# Altium schematic symbol library ZX_MyLib.SchLib: 567 symbols (part 1 of 5)
Pins are listed as number, name and electrical type; pins without a type are passive.

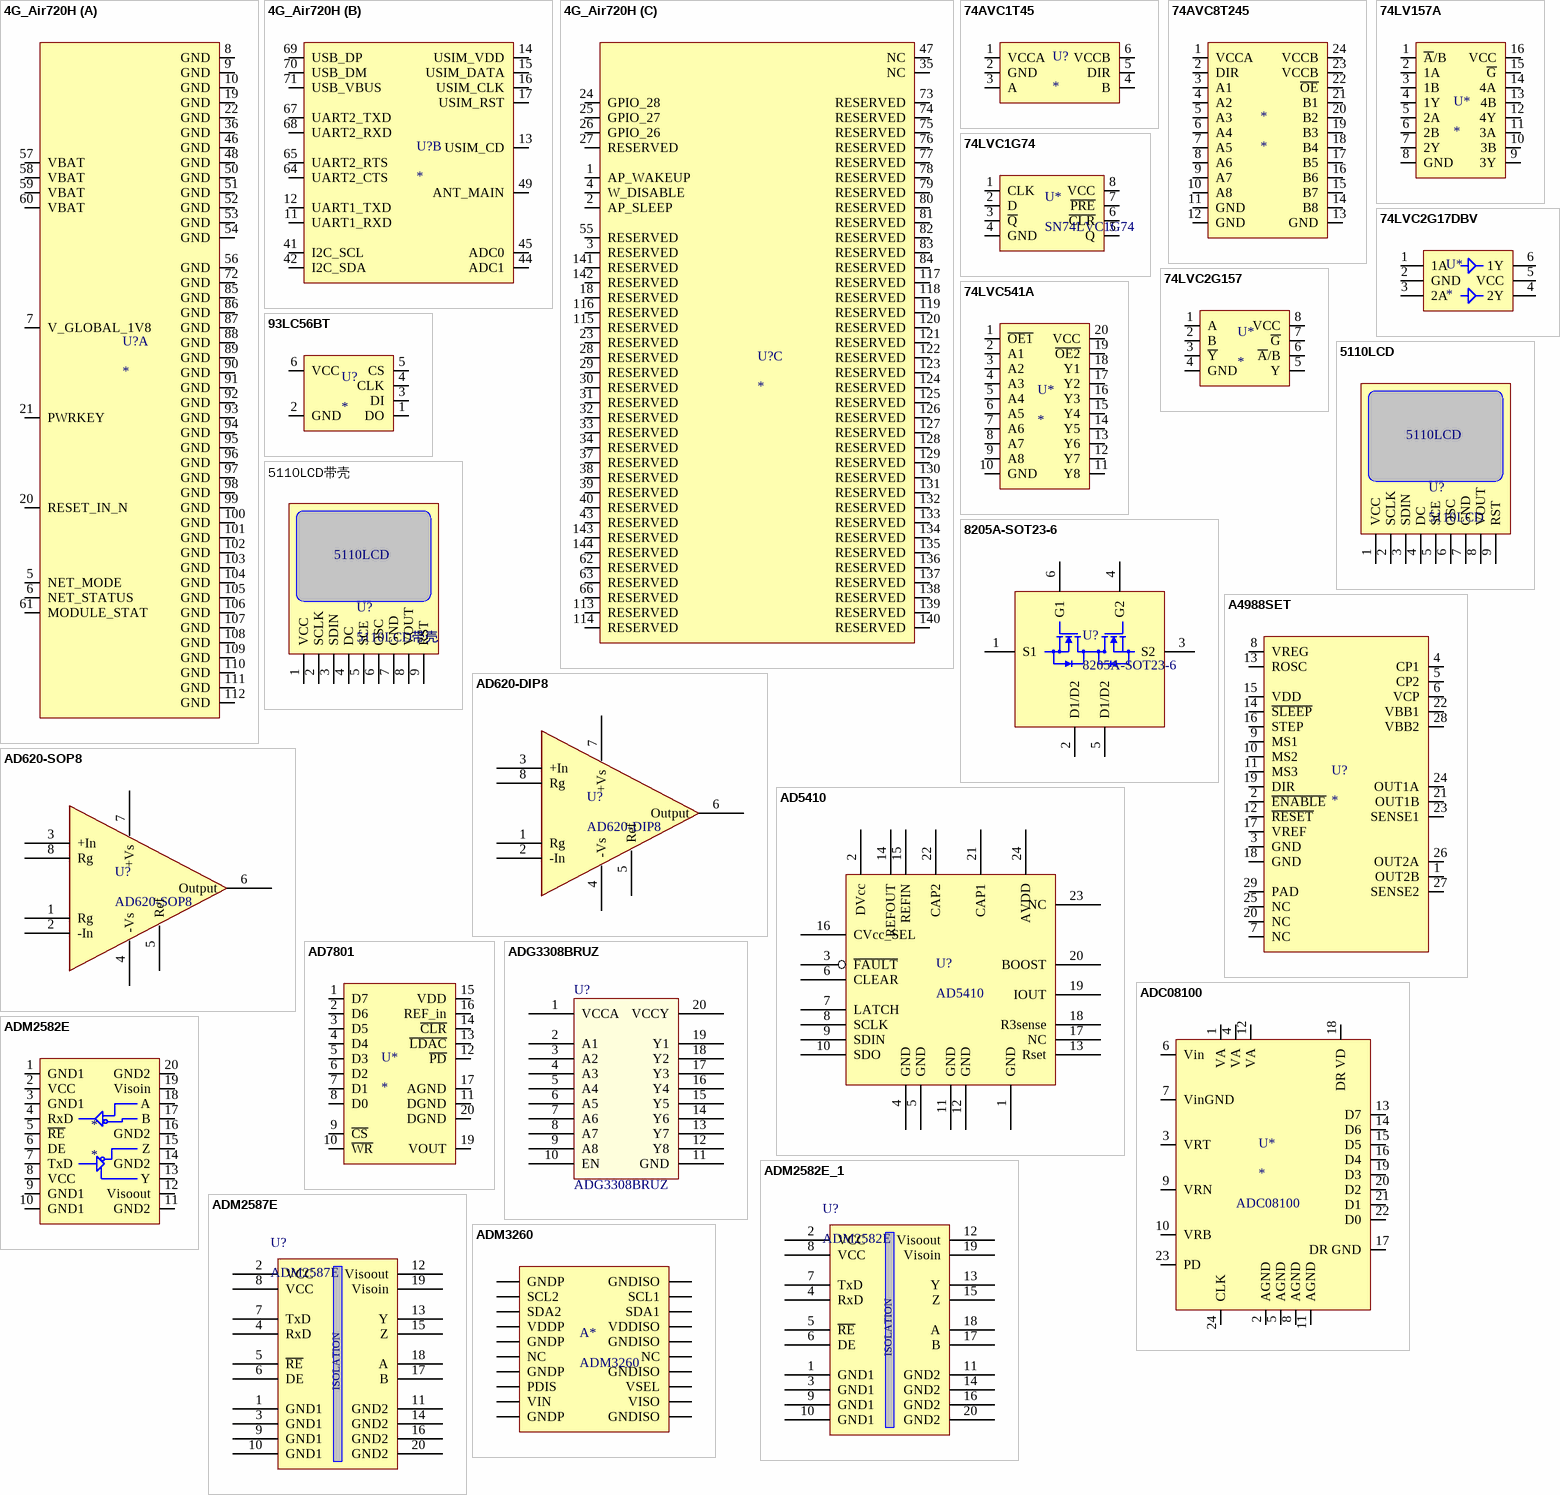
[diagram p0: symbols 4G_Air720H to ADM3260]

## 4G_Air720H
designator U?
footprint 4G_Air720H
part A pins: 5 NET_MODE, 6 NET_STATUS, 7 V_GLOBAL_1V8, 8 GND, 9 GND, 10 GND, 19 GND, 20 RESET_IN_N, 21 PWRKEY, 22 GND, 36 GND, 46 GND, 48 GND, 50 GND, 51 GND, 52 GND, 53 GND, 54 GND, 56 GND, 57 VBAT, 58 VBAT, 59 VBAT, 60 VBAT, 61 MODULE_STAT, 72 GND, 85 GND, 86 GND, 87 GND, 88 GND, 89 GND, 90 GND, 91 GND, 92 GND, 93 GND, 94 GND, 95 GND, 96 GND, 97 GND, 98 GND, 99 GND, 100 GND, 101 GND, 102 GND, 103 GND, 104 GND, 105 GND, 106 GND, 107 GND, 108 GND, 109 GND, 110 GND, 111 GND, 112 GND
part B pins: 11 UART1_RXD, 12 UART1_TXD, 13 USIM_CD, 14 USIM_VDD, 15 USIM_DATA, 16 USIM_CLK, 17 USIM_RST, 41 I2C_SCL, 42 I2C_SDA, 44 ADC1, 45 ADC0, 49 ANT_MAIN, 64 UART2_CTS, 65 UART2_RTS, 67 UART2_TXD, 68 UART2_RXD, 69 USB_DP, 70 USB_DM, 71 USB_VBUS
part C pins: 1 AP_WAKEUP, 2 AP_SLEEP, 3 RESERVED, 4 W_DISABLE, 18 RESERVED, 23 RESERVED, 24 GPIO_28, 25 GPIO_27, 26 GPIO_26, 27 RESERVED, 28 RESERVED, 29 RESERVED, 30 RESERVED, 31 RESERVED, 32 RESERVED, 33 RESERVED, 34 RESERVED, 35 NC, 37 RESERVED, 38 RESERVED, 39 RESERVED, 40 RESERVED, 43 RESERVED, 47 NC, 55 RESERVED, 62 RESERVED, 63 RESERVED, 66 RESERVED, 73 RESERVED, 74 RESERVED, 75 RESERVED, 76 RESERVED, 77 RESERVED, 78 RESERVED, 79 RESERVED, 80 RESERVED, 81 RESERVED, 82 RESERVED, 83 RESERVED, 84 RESERVED, 113 RESERVED, 114 RESERVED, 115 RESERVED, 116 RESERVED, 117 RESERVED, 118 RESERVED, 119 RESERVED, 120 RESERVED, 121 RESERVED, 122 RESERVED, 123 RESERVED, 124 RESERVED, 125 RESERVED, 126 RESERVED, 127 RESERVED, 128 RESERVED, 129 RESERVED, 130 RESERVED, 131 RESERVED, 132 RESERVED, 133 RESERVED, 134 RESERVED, 135 RESERVED, 136 RESERVED, 137 RESERVED, 138 RESERVED, 139 RESERVED, 140 RESERVED, 141 RESERVED, 142 RESERVED, 143 RESERVED, 144 RESERVED

## 74AVC1T45
designator U?
footprint SOT23-6 (SOT-457/SC-74; 6 Leads; Body 3 x 3 mm, inc. leads (LxW max))
footprint DCK (Footprint not found)
pins: 1 VCCA, 2 GND, 3 A, 4 B, 5 DIR, 6 VCCB

## 74AVC8T245
designator *
footprint TSSOP-24
pins: 1 VCCA, 2 DIR, 3 A1, 4 A2, 5 A3, 6 A4, 7 A5, 8 A6, 9 A7, 10 A8, 11 GND, 12 GND, 13 GND, 14 B8, 15 B7, 16 B6, 17 B5, 18 B4, 19 B3, 20 B2, 21 B1, 22 ~{OE}, 23 VCCB, 24 VCCB

## 74LV157A
designator U*
SN74LV157ADR
footprint SOP-16
pins: 1 ~{A}/B, 2 1A, 3 1B, 4 1Y, 5 2A, 6 2B, 7 2Y, 8 GND, 9 3Y, 10 3B, 11 3A, 12 4Y, 13 4B, 14 4A, 15 ~{G}, 16 VCC

## 74LVC1G74
designator U*, comment SN74LVC1G74
footprint VSSOP-8
pins: 1 CLK, 2 D, 3 ~{Q}, 4 GND, 5 Q, 6 ~{CLR}, 7 ~{PRE}, 8 VCC

## 74LVC2G17DBV
designator U*
footprint SOT-6L
pins: 1 1A, 2 GND, 3 2A, 4 2Y, 5 VCC, 6 1Y

## 74LVC2G157
designator U*
footprint SSOP8
pins: 1 A, 2 B, 3 ~{Y}, 4 GND, 5 Y, 6 ~{A}/B, 7 ~{G}, 8 VCC

## 74LVC541A
designator U*
footprint TSSOP-20
footprint SOIC-W20
pins: 1 ~{OE1}, 2 A1, 3 A2, 4 A3, 5 A4, 6 A5, 7 A6, 8 A7, 9 A8, 10 GND, 11 Y8, 12 Y7, 13 Y6, 14 Y5, 15 Y4, 16 Y3, 17 Y2, 18 Y1, 19 ~{OE2}, 20 VCC

## 93LC56BT
designator U?
footprint SOT23-6 (SOT-457/SC-74; 6 Leads; Body 3 x 3 mm, inc. leads (LxW max))
pins: 1 DO, 2 GND, 3 DI, 4 CLK, 5 CS, 6 VCC

## 5110LCD
designator U?
footprint 5110LCD
pins: 1 VCC, 2 SCLK, 3 SDIN, 4 DC, 5 SCE, 6 OSC, 7 GND, 8 VOUT, 9 RST

## 5110LCD带壳
designator U?
footprint 5110LCD带壳
pins: 1 VCC, 2 SCLK, 3 SDIN, 4 DC, 5 SCE, 6 OSC, 7 GND, 8 VOUT, 9 RST
text: 5110LCD

## 8205A-SOT23-6
designator U?
8205A Dual N-Channel Enhancement-Mode MOSFET (20V, 4A)
footprint SOT23-6 (SOT-457/SC-74; 6 Leads; Body 3 x 3 mm, inc. leads (LxW max))
pins: 1 S1, 2 D1/D2, 3 S2, 4 G2, 5 D1/D2, 6 G1

## A4988SET
designator U?
footprint QFN28 (QFN28, 0.5Pitch, 5.0x5.0mm)
pins: 1 OUT2B, 2 ~{ENABLE}, 3 GND, 4 CP1, 5 CP2, 6 VCP, 7 NC, 8 VREG, 9 MS1, 10 MS2, 11 MS3, 12 ~{RESET}, 13 ROSC, 14 ~{SLEEP}, 15 VDD, 16 STEP, 17 VREF, 18 GND, 19 DIR, 20 NC, 21 OUT1B, 22 VBB1, 23 SENSE1, 24 OUT1A, 25 NC, 26 OUT2A, 27 SENSE2, 28 VBB2, 29 PAD

## AD620-DIP8
designator U?
footprint AD620-DIP8
pins: 1 Rg, 2 -In, 3 +In, 4 -Vs, 5 Ref, 6 Output, 7 +Vs, 8 Rg

## AD620-SOP8
designator U?
footprint AD620-SOP8
pins: 1 Rg, 2 -In, 3 +In, 4 -Vs, 5 Ref, 6 Output, 7 +Vs, 8 Rg

## AD5410
designator U?
footprint AD5410
pins: 1 GND, 2 DVcc, 3 ~{FAULT}, 4 GND, 5 GND, 6 CLEAR, 7 LATCH, 8 SCLK, 9 SDIN, 10 SDO, 11 GND, 12 GND, 13 Rset, 14 REFOUT, 15 REFIN, 16 CVcc_SEL, 17 NC, 18 R3sense, 19 IOUT, 20 BOOST, 21 CAP1, 22 CAP2, 23 NC, 24 AVDD

## AD7801
designator U*
pins: 1 D7, 2 D6, 3 D5, 4 D4, 5 D3, 6 D2, 7 D1, 8 D0, 9 ~{CS}, 10 ~{WR}, 11 DGND, 12 ~{PD}, 13 ~{LDAC}, 14 ~{CLR}, 15 VDD, 16 REF_in, 17 AGND, 19 VOUT, 20 DGND

## ADC08100
designator U*
pins: 1 VA, 2 AGND, 3 VRT, 4 VA, 5 AGND, 6 Vin, 7 VinGND, 8 AGND, 9 VRN, 10 VRB, 11 AGND, 12 VA, 13 D7, 14 D6, 15 D5, 16 D4, 17 DR GND, 18 DR VD, 19 D3, 20 D2, 21 D1, 22 D0, 23 PD, 24 CLK

## ADG3308BRUZ
designator U?
footprint TSSOP-20 (TSSOP, Plastic; 20 Leads; Body Width 5.3 mm; Pitch 0.65 mm)
pins: 1 VCCA, 2 A1, 3 A2, 4 A3, 5 A4, 6 A5, 7 A6, 8 A7, 9 A8, 10 EN, 11 GND, 12 Y8, 13 Y7, 14 Y6, 15 Y5, 16 Y4, 17 Y3, 18 Y2, 19 Y1, 20 VCCY

## ADM2582E
designator *
footprint SOIC-W20
pins: 1 GND1, 2 VCC, 3 GND1, 4 RxD, 5 ~{RE}, 6 DE, 7 TxD, 8 VCC, 9 GND1, 10 GND1, 11 GND2, 12 Visoout, 13 Y, 14 GND2, 15 Z, 16 GND2, 17 B, 18 A, 19 Visoin, 20 GND2

## ADM2582E_1
designator U?, comment ADM2582E
2.5 kV Signal and Power Isolated, ±15 kV ESD Protected, Full/Half Duplex RS-485 Transceiver (16Mbps)
footprint SOP-20 (20-Pin Small Outline Integrated Circuit 1.27 mm Pitch, IPC Low Density)
pins: 1 GND1 "Ground, Logic Side.", 2 VCC  "Logic Side Power Supply. It is recommended that a 0.1 μF and a 0.01 μF decoupling capacitor be fitted between  Pin 2 and Pin 1.", 3 GND1  "Ground, Logic Side.", 4 RxD "Receiver Output Data. This output is high when (A ? B) ≥ ?30 mV and low when (A ? B) ≤ –200 mV.  The output is tristated when the receiver is disabled, that is, when RE is driven high.", 5 ~{RE} "Receiver Enable Input. This is an active-low input. Driving this input low enables the receiver; driving it  high disables the receiver.", 6 DE "Driver Enable Input. Driving this input high enables the driver; driving it low disables the driver.", 7 TxD "Driver Input. Data to be transmitted by the driver is applied to this input.", 8 VCC "Logic Side Power Supply. It is recommended that a 0.1 μF and a 10 μF decoupling capacitor be fitted between  Pin 8 and Pin 9.", 9 GND1 "Ground, Logic Side.", 10 GND1 "Ground, Logic Side.", 11 GND2 "Ground, Bus Side.", 12 Visoout "Isolated Power Supply Output. This pin must be connected externally to VISOIN. It is recommended that a reservoir capacitor of 10 μF and a decoupling capacitor of 0.1 μF be fitted between Pin 12 and Pin 11.", 13 Y "Driver Noninverting Output", 14 GND2 "Ground, Bus Side.", 15 Z "Driver Inverting Output", 16 GND2 "Ground, Bus Side.", 17 B "Receiver Inverting Input.", 18 A "Receiver Noninverting Input.", 19 Visoin "Isolated Power Supply Input. This pin must be connected externally to VISOOUT. It is recommended that a  0.1 μF and a 0.01 μF decoupling capacitor be fitted between Pin 19 and Pin 20.", 20 GND2 "Ground, Bus Side."
text: ISOLATION

## ADM2587E
designator U?
2.5 kV Signal and Power Isolated, ±15 kV ESD Protected, Full/Half Duplex RS-485 Transceiver (500kbps)
footprint SOP-20 (20-Pin Small Outline Integrated Circuit 1.27 mm Pitch, IPC Low Density)
pins: 1 GND1 "Ground, Logic Side.", 2 VCC  "Logic Side Power Supply. It is recommended that a 0.1 μF and a 0.01 μF decoupling capacitor be fitted between  Pin 2 and Pin 1.", 3 GND1  "Ground, Logic Side.", 4 RxD "Receiver Output Data. This output is high when (A ? B) ≥ ?30 mV and low when (A ? B) ≤ –200 mV.  The output is tristated when the receiver is disabled, that is, when RE is driven high.", 5 ~{RE} "Receiver Enable Input. This is an active-low input. Driving this input low enables the receiver; driving it  high disables the receiver.", 6 DE "Driver Enable Input. Driving this input high enables the driver; driving it low disables the driver.", 7 TxD "Driver Input. Data to be transmitted by the driver is applied to this input.", 8 VCC "Logic Side Power Supply. It is recommended that a 0.1 μF and a 10 μF decoupling capacitor be fitted between  Pin 8 and Pin 9.", 9 GND1 "Ground, Logic Side.", 10 GND1 "Ground, Logic Side.", 11 GND2 "Ground, Bus Side.", 12 Visoout "Isolated Power Supply Output. This pin must be connected externally to VISOIN. It is recommended that a reservoir capacitor of 10 μF and a decoupling capacitor of 0.1 μF be fitted between Pin 12 and Pin 11.", 13 Y "Driver Noninverting Output", 14 GND2 "Ground, Bus Side.", 15 Z "Driver Inverting Output", 16 GND2 "Ground, Bus Side.", 17 B "Receiver Inverting Input.", 18 A "Receiver Noninverting Input.", 19 Visoin "Isolated Power Supply Input. This pin must be connected externally to VISOOUT. It is recommended that a  0.1 μF and a 0.01 μF decoupling capacitor be fitted between Pin 19 and Pin 20.", 20 GND2 "Ground, Bus Side."
text: ISOLATION

## ADM3260
designator A*
footprint SSOP20
pins: 1 GNDP, 2 SCL2, 3 SDA2, 4 VDDP, 5 GNDP, 6 NC, 7 GNDP, 8 PDIS, 9 VIN, 10 GNDP, 11 GNDISO, 12 VISO, 13 VSEL, 14 GNDISO, 15 NC, 16 GNDISO, 17 VDDISO, 18 SDA1, 19 SCL1, 20 GNDISO

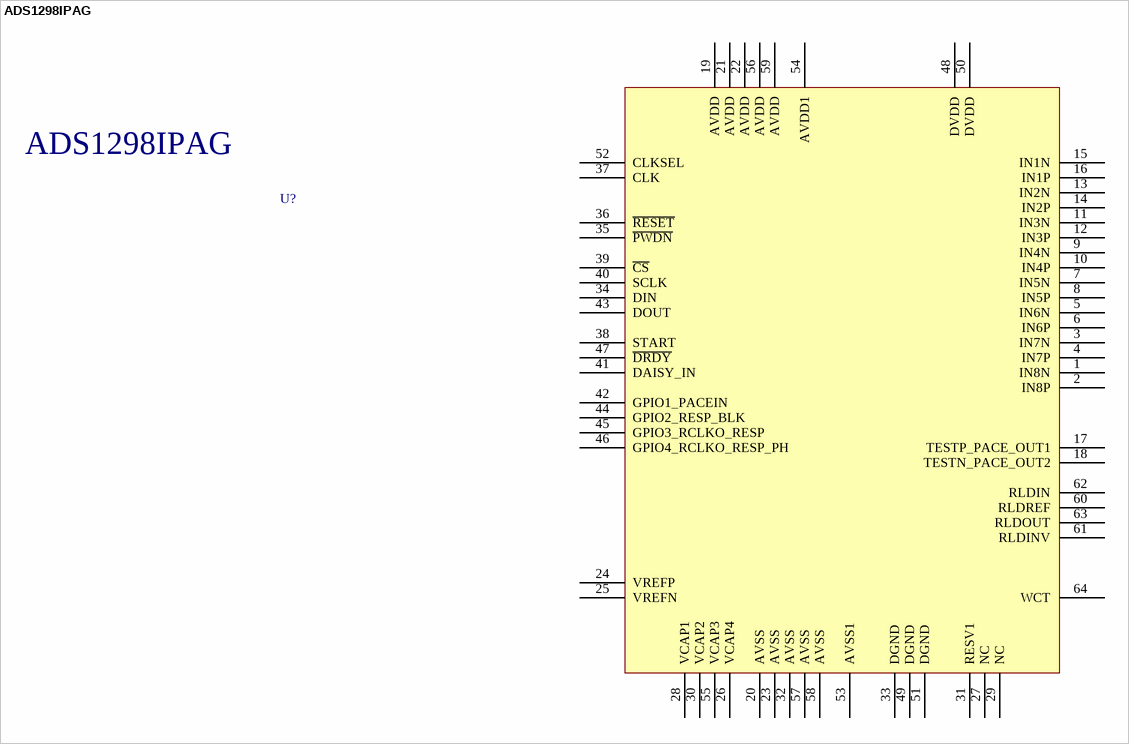
[diagram p1: symbol ADS1298IPAG]

## ADS1298IPAG
designator U?
footprint ADS1298IPAG
pins: 1 IN8N, 2 IN8P, 3 IN7N, 4 IN7P, 5 IN6N, 6 IN6P, 7 IN5N, 8 IN5P, 9 IN4N, 10 IN4P, 11 IN3N, 12 IN3P, 13 IN2N, 14 IN2P, 15 IN1N, 16 IN1P, 17 TESTP_PACE_OUT1, 18 TESTN_PACE_OUT2, 19 AVDD, 20 AVSS, 21 AVDD, 22 AVDD, 23 AVSS, 24 VREFP, 25 VREFN, 26 VCAP4, 27 NC, 28 VCAP1, 29 NC, 30 VCAP2, 31 RESV1, 32 AVSS, 33 DGND, 34 DIN, 35 ~{PWDN}, 36 ~{RESET}, 37 CLK, 38 START, 39 ~{CS}, 40 SCLK, 41 DAISY_IN, 42 GPIO1_PACEIN, 43 DOUT, 44 GPIO2_RESP_BLK, 45 GPIO3_RCLKO_RESP, 46 GPIO4_RCLKO_RESP_PH, 47 ~{DRDY}, 48 DVDD, 49 DGND, 50 DVDD, 51 DGND, 52 CLKSEL, 53 AVSS1, 54 AVDD1, 55 VCAP3, 56 AVDD, 57 AVSS, 58 AVSS, 59 AVDD, 60 RLDREF, 61 RLDINV, 62 RLDIN, 63 RLDOUT, 64 WCT

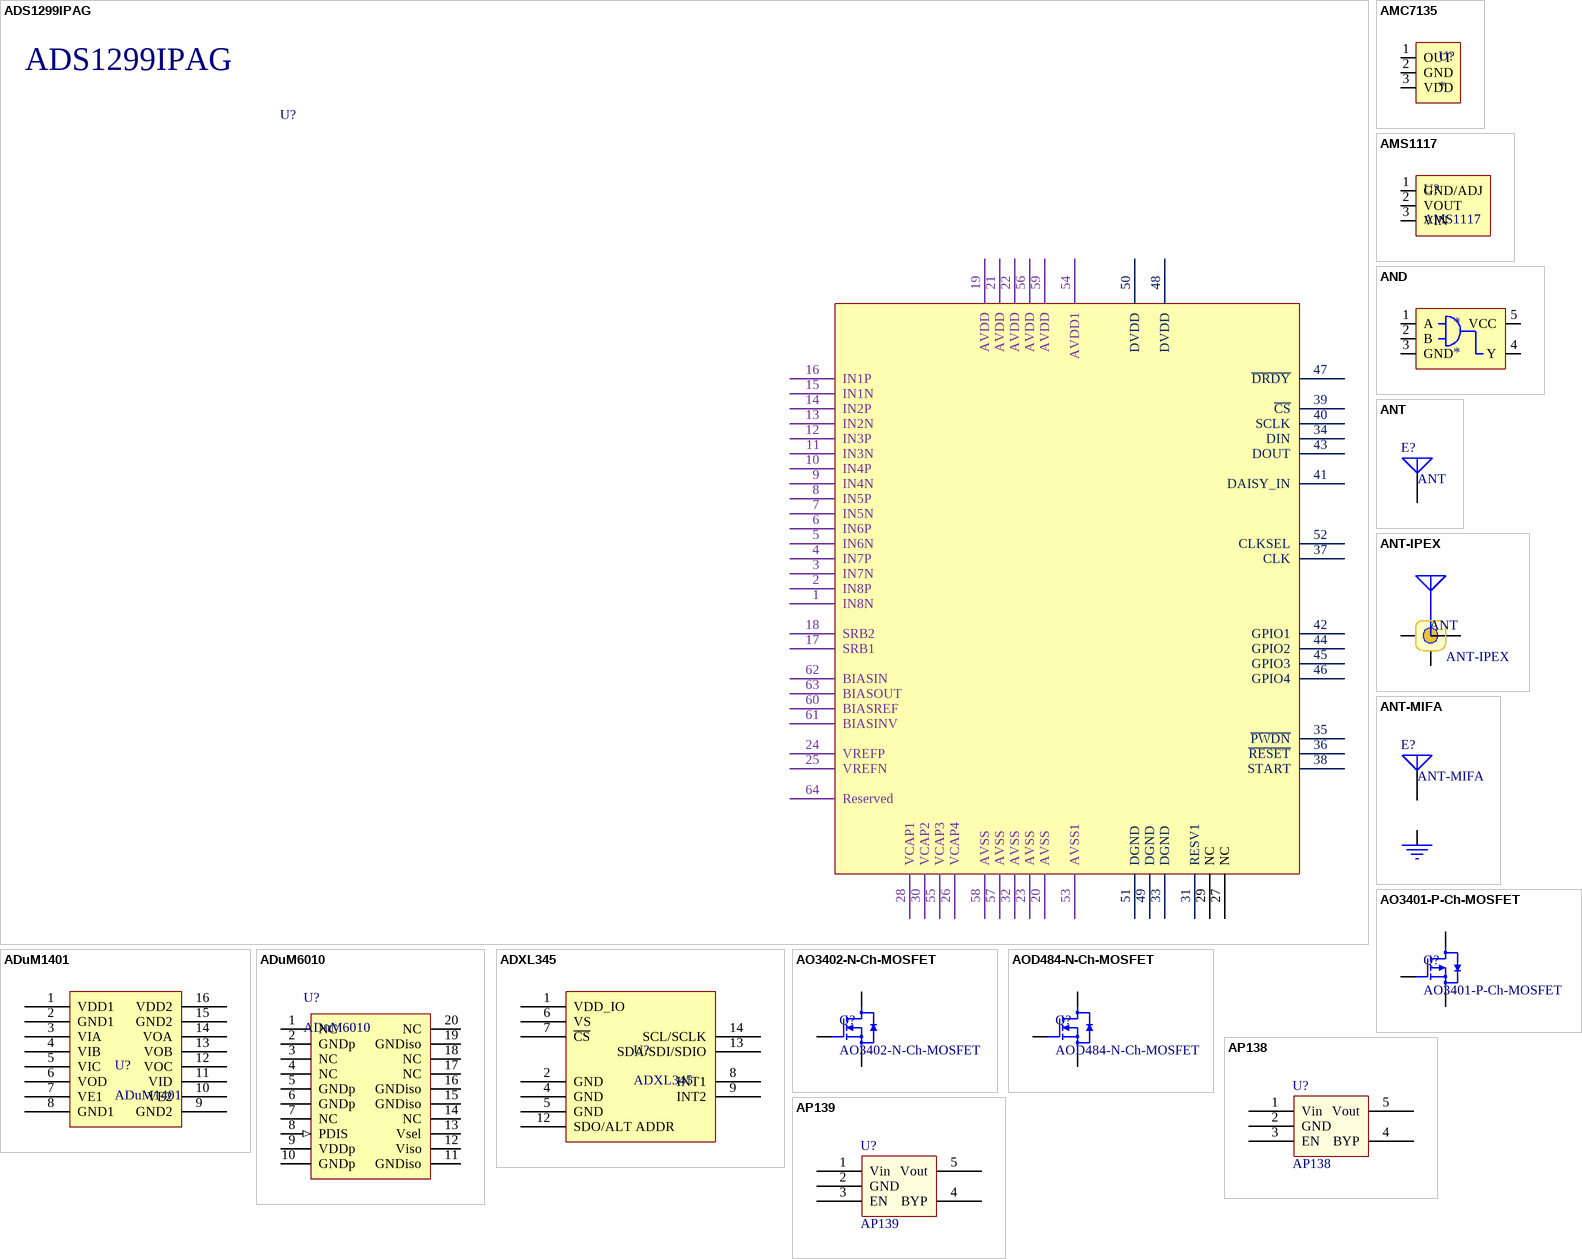
[diagram p2: symbols ADS1299IPAG to AP139]

## ADS1299IPAG
designator U?
Low-Noise, 8-Channel, 24-Bit Analog Front-End for Biopotential Measurements
footprint ADS1299IPAG (ADS1299IPAG,Low-Noise, 8-Channel, 24-Bit Analog Front-End for Biopotential Measurements)
pins: 1 IN8N "Differential analog negative input 8", 2 IN8P "Differential analog positive input 8", 3 IN7N "Differential analog negative input 7", 4 IN7P "Differential analog positive input 7", 5 IN6N "Differential analog negative input 6", 6 IN6P "Differential analog positive input 6", 7 IN5N "Differential analog negative input 5", 8 IN5P "Differential analog positive input 5", 9 IN4N "Differential analog negative input 4", 10 IN4P "Differential analog positive input 4", 11 IN3N "Differential analog negative input 3", 12 IN3P "Differential analog positive input 3", 13 IN2N "Differential analog negative input 2", 14 IN2P "Differential analog positive input 2", 15 IN1N "Differential analog negative input 1", 16 IN1P "Differential analog positive input 1", 17 SRB1 "Patient stimulus, reference, and bias signal 1", 18 SRB2 "Patient stimulus, reference, and bias signal 2", 19 AVDD "Analog supply", 20 AVSS "Analog ground", 21 AVDD "Analog supply", 22 AVDD "Analog supply", 23 AVSS "Analog ground", 24 VREFP "Positive reference voltage", 25 VREFN "Negative reference voltage", 26 VCAP4 "Analog bypass capacitor", 27 NC "No connection", 28 VCAP1 "Analog bypass capacitor", 29 NC "No connection", 30 VCAP2 "Analog bypass capacitor", 31 RESV1 "Reserved for future use. Must tie to logic low (DGND)", 32 AVSS "Analog ground", 33 DGND "Digital ground", 34 DIN "SPI data in", 35 ~{PWDN} "Power-down; active low", 36 ~{RESET} "System reset; active low", 37 CLK "Master clock input", 38 START "Start conversion", 39 ~{CS} "SPI chip select; active low", 40 SCLK "SPI clock", 41 DAISY_IN "Daisy-chain input", 42 GPIO1 "General-purpose input/output pin", 43 DOUT "SPI data out", 44 GPIO2 "General-purpose input/output pin", 45 GPIO3 "GPIO3 in normal mode", 46 GPIO4 "GPIO4 in normal mode", 47 ~{DRDY} "Data ready; active low", 48 DVDD "Digital power supply", 49 DGND "Digital ground", 50 DVDD "Digital power supply", 51 DGND "Digital ground", 52 CLKSEL "Master clock select", 53 AVSS1 "Analog ground", 54 AVDD1 "Analog supply", 55 VCAP3 "Analog bypass capacitor", 56 AVDD "Analog supply", 57 AVSS "Analog ground", 58 AVSS "Charge pump analog ground", 59 AVDD "Charge pump analog supply", 60 BIASREF "Bias drive noninverting input", 61 BIASINV "Bias drive inverting input", 62 BIASIN "Bias drive input to MUX", 63 BIASOUT "Bias drive output", 64 Reserved "Leave as open circuit"

## ADuM1401
designator U?
footprint ADUM1401
pins: 1 VDD1, 2 GND1, 3 VIA, 4 VIB, 5 VIC, 6 VOD, 7 VE1, 8 GND1, 9 GND2, 10 VE2, 11 VID, 12 VOC, 13 VOB, 14 VOA, 15 GND2, 16 VDD2

## ADuM6010
designator U?
Integrated DC-to-DC Converter
footprint SSOP-20 (SSOP, Plastic; 20 Leads; Body Width 5.3 mm; Pitch 0.65 mm)
pins: 1 NC "空引脚", 2 GNDp (power) "隔离器原边参考", 3 NC "空引脚", 4 NC "空引脚", 5 GNDp (power) "隔离器原边参考", 6 GNDp (power) "隔离器原边参考", 7 NC (power) "空引脚", 8 PDIS (in) "禁用电源转换", 9 VDDp (power) "原边电源电压，3.0 V至5.5 V", 10 GNDp (power) "隔离器原边参考地", 11 GNDiso (power) "隔离器第2侧的接地基准点", 12 Viso (power) "根据与VSEL相连的分压器，外部负载的副电源为3.15 V至5.5 V。", 13 Vsel (power) "输出电压选择输入", 14 NC "空引脚", 15 GNDiso (power) "隔离器第2侧的接地基准点", 16 GNDiso (power) "隔离器第2侧的接地基准点", 17 NC "空引脚", 18 NC "空引脚", 19 GNDiso (power) "隔离器第2侧的接地基准点", 20 NC "空引脚"

## ADXL345
designator U?
footprint ADXL345 (ADXL345 SMD Digital Accelerometer)
pins: 1 VDD_IO, 2 GND, 4 GND, 5 GND, 6 VS, 7 ~{CS}, 8 INT1, 9 INT2, 12 SDO/ALT ADDR, 13 SDA/SDI/SDIO, 14 SCL/SCLK

## AMC7135
designator U?
恒流LED驱动芯片，AMC7135、L7135、MEL7135
footprint SOT-89 (SOT-89-3L SMT PACKAGE)
pins: 1 OUT, 2 GND, 3 VDD

## AMS1117
designator U?
AMS1117 1A LOW DROPOUT VOLTAGE REGULATOR
footprint SOT-223 (3 LEAD SOT-223 PLASTIC PACKAGE)
pins: 1 GND/ADJ "Ground or Adjust", 2 VOUT "Voltage Output", 3 VIN "Voltage Input"

## AND
designator *
footprint SOT-23-5
pins: 1 A, 2 B, 3 GND, 4 Y, 5 VCC

## ANT
designator E?
Generic Antenna
footprint ANT-IFA_2.4GHz (Inverted F 2.4 GHz PCB antenna)
footprint ANT-GPS1003 (GPS1003 1575MHz Multilayer Chip Antenna)
footprint ANT-MD1506_12N (MD1506‐12N  (820MHz~1950MHz)Multilayer  Chip  Antenna)
footprint ANT-1603 (AN1603 433MHz Multilayer Chip Antenna)
footprint ANT-IIFA_868MHz_915MHz (Small Size IIFA 868MHz/915MHz PCB antenna)
footprint ANT-ILA_2.4GHz (Inverted L 2.4 GHz PCB antenna)
footprint ANT-ILA_B_2.4GHz (Inverted L 2.4 GHz PCB antenna)
footprint ANT-PIFA_2.4GHz_1MM (Small Size PIFA 2.4 GHz PCB antenna)
footprint ANT-9520 (AN9520  Multilayer Chip Antenna for  2.4GHz Wireless Communication)
footprint ANT-RT5370_AP_D9595 (Wi-Fi 2.4GHz PCB Antenna)
footprint ANT-IIFA_2.4GHz_ESP (Small Size IIFA 2.4 GHz PCB antenna)
pins: 1 A

## ANT-IPEX
designator ANT
IPEX天线座
footprint IPEX-3x3mm (U.FL-R-SMT)
footprint IPEX-3x3mm_2 (U.FL-R-SMT)
pins: 1, 2 G, 3

## ANT-MIFA
designator E?
Meandered Inverted F Antenna
footprint ANT-IIFA_2.4GHz (Small Size IIFA 2.4 GHz PCB antenna)
footprint ANT-IIFA_868MHz_915MHz (Small Size IIFA 868MHz/915MHz PCB antenna)
footprint ANT-PIFA_2.4GHz_1MM (Small Size PIFA 2.4 GHz PCB antenna)
footprint ANT-RT5370_AP_D9595 (Wi-Fi 2.4GHz PCB Antenna)
footprint ANT-IIFA_2.4GHz_ESP (Small Size IIFA 2.4 GHz PCB antenna)
pins: 1 A, 2 G

## AO3401-P-Ch-MOSFET
designator Q?
AO3401-P-Ch,-4.2A, -30V.RDS(ON) = 0.12Ω @ VGS = -2.5 V
footprint AO3401-P-Ch-MOSFET
pins: 1 G, 2 S, 3 D

## AO3402-N-Ch-MOSFET
designator Q?
AO3402-N-Ch,4A,30V.RDS(ON) = 0.11Ω @ VGS = 2.5V
footprint AO3402-N-Ch-MOSFET
pins: 1 G, 2 S, 3 D

## AOD484-N-Ch-MOSFET
designator Q?
30V N-Channel MOSFET, 25A, Gate Threshold Voltage 2.5V
footprint TO-252-2 (TO-252-2,TD03B)
pins: 1 G, 2 D, 3 S

## AP138
designator U?
AP138 300mA Low-Noise CMOS LDO
footprint SOT23-5
pins: 1 Vin "Power Supply", 2 GND (power) "Ground", 3 EN "Enable Pin", 4 BYP "Bypass Signal Pin", 5 Vout (power) "Output"

## AP139
designator U?
AP139 300mA Low-Noise CMOS LDO
footprint SOT23-5
pins: 1 Vin "Power Supply", 2 GND (power) "Ground", 3 EN "Enable Pin", 4 BYP "Bypass Signal Pin", 5 Vout (power) "Output"

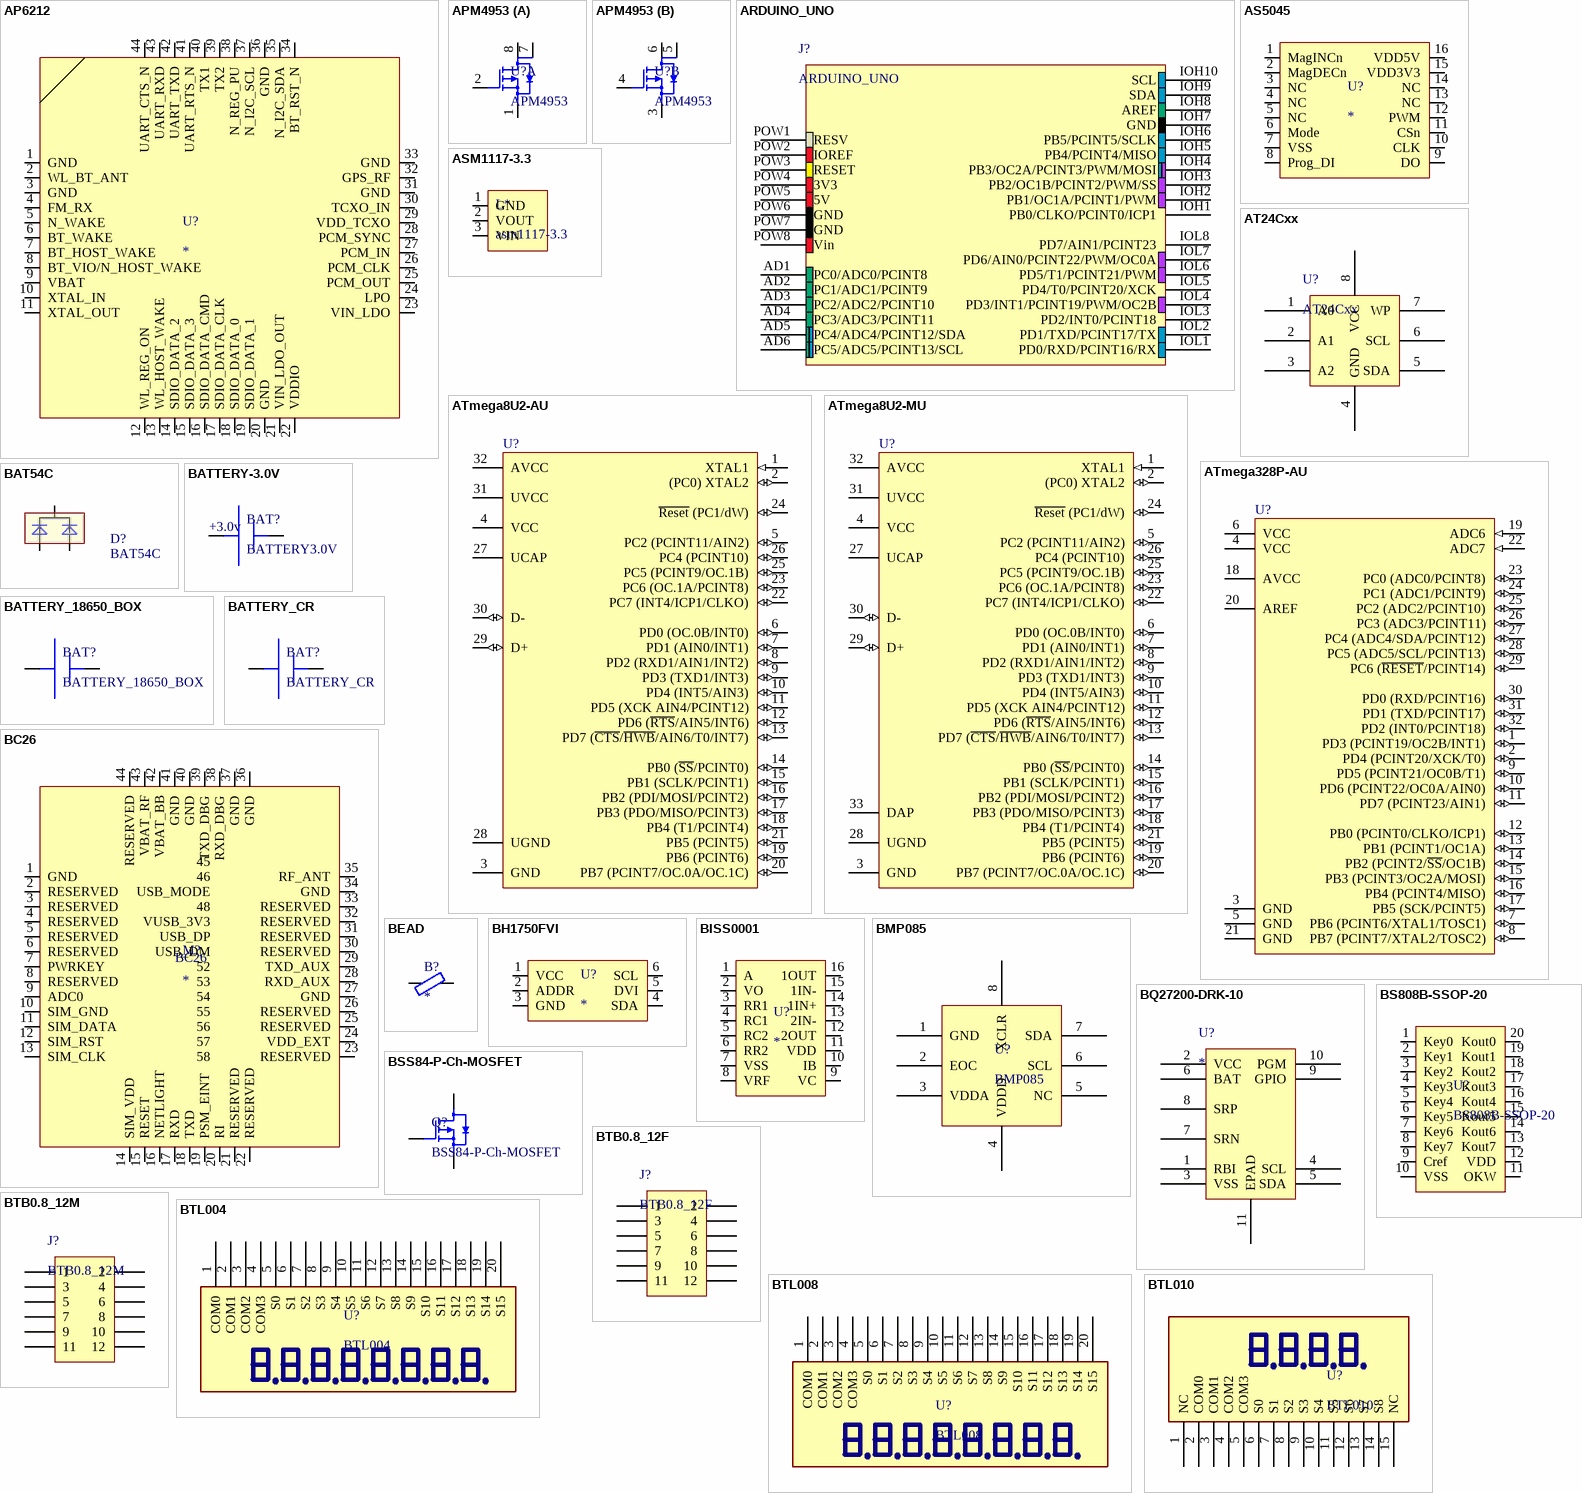
[diagram p3: symbols AP6212 to BTL010]

## AP6212
designator U?
footprint AP6212 (WIFI/BT MODULE)
pins: 1 GND, 2 WL_BT_ANT, 3 GND, 4 FM_RX, 5 N_WAKE, 6 BT_WAKE, 7 BT_HOST_WAKE, 8 BT_VIO/N_HOST_WAKE, 9 VBAT, 10 XTAL_IN, 11 XTAL_OUT, 12 WL_REG_ON, 13 WL_HOST_WAKE, 14 SDIO_DATA_2, 15 SDIO_DATA_3, 16 SDIO_DATA_CMD, 17 SDIO_DATA_CLK, 18 SDIO_DATA_0, 19 SDIO_DATA_1, 20 GND, 21 VIN_LDO_OUT, 22 VDDIO, 23 VIN_LDO, 24 LPO, 25 PCM_OUT, 26 PCM_CLK, 27 PCM_IN, 28 PCM_SYNC, 29 VDD_TCXO, 30 TCXO_IN, 31 GND, 32 GPS_RF, 33 GND, 34 BT_RST_N, 35 N_I2C_SDA, 36 GND, 37 N_I2C_SCL, 38 N_REG_PU, 39 TX2, 40 TX1, 41 UART_RTS_N, 42 UART_TXD, 43 UART_RXD, 44 UART_CTS_N

## APM4953
designator U?
-30V/-4.9A(Rds=80mΩ@-4.5V) Dual P-Channel Enhancement Mode MOSFET
footprint SOP-8 (8-Pin Small Outline Integrated Circuit 1.27 mm Pitch, IPC Low Density)
part A pins: 1 S1, 2 G1, 7 D1, 8 D1
part B pins: 3 S2, 4 G2, 5 D2, 6 D2

## ARDUINO_UNO
designator J?
Arduino UNO Connector
footprint ARDUINO_UNO
pins: AD1 PC0/ADC0/PCINT8, AD2 PC1/ADC1/PCINT9, AD3 PC2/ADC2/PCINT10, AD4 PC3/ADC3/PCINT11, AD5 PC4/ADC4/PCINT12/SDA, AD6 PC5/ADC5/PCINT13/SCL, IOH1 PB0/CLKO/PCINT0/ICP1, IOH2 PB1/OC1A/PCINT1/PWM, IOH3 PB2/OC1B/PCINT2/PWM/SS, IOH4 PB3/OC2A/PCINT3/PWM/MOSI, IOH5 PB4/PCINT4/MISO, IOH6 PB5/PCINT5/SCLK, IOH7 GND, IOH8 AREF, IOH9 SDA, IOH10 SCL, IOL1 PD0/RXD/PCINT16/RX, IOL2 PD1/TXD/PCINT17/TX, IOL3 PD2/INT0/PCINT18, IOL4 PD3/INT1/PCINT19/PWM/OC2B, IOL5 PD4/T0/PCINT20/XCK, IOL6 PD5/T1/PCINT21/PWM, IOL7 PD6/AIN0/PCINT22/PWM/OC0A, IOL8 PD7/AIN1/PCINT23, POW1 RESV, POW2 IOREF, POW3 RESET, POW4 3V3, POW5 5V, POW6 GND, POW7 GND, POW8 Vin

## AS5045
designator U?
磁旋转编码器
footprint SSOP-16 (SSOP, Plastic; 16 Leads; Body Width 5.3 mm; Pitch 0.65 mm)
pins: 1 MagINCn, 2 MagDECn, 3 NC, 4 NC, 5 NC, 6 Mode, 7 VSS, 8 Prog_DI, 9 DO, 10 CLK, 11 CSn, 12 PWM, 13 NC, 14 NC, 15 VDD3V3, 16 VDD5V

## ASM1117-3.3
designator L*, comment asm1117-3.3
footprint SOT-223
pins: 1 GND, 2 VOUT, 3 VIN

## AT24Cxx
designator U?
EEPROM,Serial electrically erasable and programmable read only memory.
footprint SOP-8 (8-Pin Small Outline Integrated Circuit 1.27 mm Pitch, IPC Low Density)
footprint DIP-8 (DIP8封装，100mil间距，300mil引脚宽度)
footprint WSOP-8 (8-Pin Small Outline Package 1.27 mm Pitch, IPC Medium Density)
pins: 1 A0 "Address Inputs", 2 A1 "Address Inputs", 3 A2 "Address Inputs", 4 GND "Ground", 5 SDA "Serial Data", 6 SCL "Serial Clock Input", 7 WP "Write Protect", 8 VCC "Power Supply"

## ATmega8U2-AU
designator U?
8-bit AVR Microcontroller, 2.7-5.5V, 8KB Flash, 512 Bytes EEPROM, 512 Bytes SRAM, 32-pin TQFP, Industrial Grade (-40 Centigrade to 85 Centigrade); Published: 1-Apr-2010; DatasheetVersion: revC, Dec-2009; PackageVersion: revB, Oct-2001; PackageReference: 32A; Publisher: Altium Limited; PackageDescription: 32-Lead, 7x7x1.0 mm Body, 0.8mm Lead Pitch, Thin Profile Plastic Quad Flat Package (TQFP); Supplier 1: Digi-Key; Supplier Part Number 1: ATMEGA8U2-AU-ND; Supplier 2: Farnell; Supplier Part Number 2: 1748535; Supplier 3: Mouser; Supplier Part Number 3: 556-ATMEGA8U2-AU; Code_JEDEC: MS-026-ABA; ComponentLink1Description: Manufacturer Link; ComponentLink1URL: http://www.atmel.com/products/avr/default.asp?; ComponentLink2Description: ATmega8U2/16U2/32U2 Datasheet; ComponentLink2URL: http://www.atmel.com/dyn/resources/prod_documents/doc7799.pdf; ComponentLink3Description: ATmega8U2/16U2/32U2 Summary; ComponentLink3URL: http://www.atmel.com/dyn/resources/prod_documents/7799S.pdf; ComponentLink4Description: Atmel.com Home; ComponentLink4URL: http://www.atmel.com
footprint LQFP32_L (Thin QFP, 32-Leads, Body 7x7mm, Pitch 0.8mm, IPC High Density)
footprint LQFP32_N (Thin QFP, 32-Leads, Body 7x7mm, Pitch 0.8mm, IPC Medium Density)
footprint LQFP32_M (Thin QFP, 32-Leads, Body 7x7mm, Pitch 0.8mm, IPC Low Density)
pins: 1 XTAL1 (in), 2 (PC0) XTAL2 (io), 3 GND (power), 4 VCC (power), 5 PC2 (PCINT11/AIN2) (io), 6 PD0 (OC.0B/INT0) (io), 7 PD1 (AIN0/INT1) (io), 8 PD2 (RXD1/AIN1/INT2) (io), 9 PD3 (TXD1/INT3) (io), 10 PD4 (INT5/AIN3) (io), 11 PD5 (XCK AIN4/PCINT12) (io), 12 PD6 (~{RTS}/AIN5/INT6) (io), 13 PD7 (~{CTS}/~{HWB}/AIN6/T0/INT7) (io), 14 PB0 (~{SS}/PCINT0) (io), 15 PB1 (SCLK/PCINT1) (io), 16 PB2 (PDI/MOSI/PCINT2) (io), 17 PB3 (PDO/MISO/PCINT3) (io), 18 PB4 (T1/PCINT4) (io), 19 PB6 (PCINT6) (io), 20 PB7 (PCINT7/OC.0A/OC.1C) (io), 21 PB5 (PCINT5) (io), 22 PC7 (INT4/ICP1/CLKO) (io), 23 PC6 (OC.1A/PCINT8) (io), 24 ~{Reset} (PC1/dW) (io), 25 PC5 (PCINT9/OC.1B) (io), 26 PC4 (PCINT10) (io), 27 UCAP (power), 28 UGND (power), 29 D+ (io), 30 D- (io), 31 UVCC (power), 32 AVCC (power)

## ATmega8U2-MU
designator U?
8-bit AVR Microcontroller, 2.7-5.5V, 8KB Flash, 512 Bytes EEPROM, 512 Bytes SRAM, 32-pin VQFN, Industrial Grade (-40 Centigrade to 85 Centigrade); Published: 1-Apr-2010; DatasheetVersion: revC, Dec-2009; PackageVersion: revA, Oct-2008; PackageReference: 32PG; Publisher: Altium Limited; PackageDescription: 32-Pin Quad Flat No-Lead (QFN) Sawn,  5 x 5 x 1.0 mm Body, Pitch 0.50 mm, 3.60mm Exposed Pad; Supplier 1: Digi-Key; Supplier Part Number 1: ATMEGA8U2-MU-ND; Supplier 2: Farnell; Supplier Part Number 2: 1748536; Supplier 3: Mouser; Supplier Part Number 3: 556-ATMEGA8U2-MU; Code_JEDEC: MO-220WHHD-2; ComponentLink1Description: Manufacturer Link; ComponentLink1URL: http://www.atmel.com/products/avr/default.asp?; ComponentLink2Description: ATmega8U2/16U2/32U2 Datasheet; ComponentLink2URL: http://www.atmel.com/dyn/resources/prod_documents/doc7799.pdf; ComponentLink3Description: ATmega8U2/16U2/32U2 Summary; ComponentLink3URL: http://www.atmel.com/dyn/resources/prod_documents/7799S.pdf; ComponentLink4Description: Atmel.com Home; ComponentLink4URL: http://www.atmel.com
footprint PVQFN32_L (QFN, 32-Leads, Body 5x5mm, Pitch 0.5mm, IPC High Density)
footprint PVQFN32_M (QFN, 32-Leads, Body 5x5mm, Pitch 0.5mm, IPC Low Density)
footprint PVQFN32_N (QFN, 32-Leads, Body 5x5mm, Pitch 0.5mm, IPC Medium Density)
pins: 1 XTAL1 (in), 2 (PC0) XTAL2 (io), 3 GND (power), 4 VCC (power), 5 PC2 (PCINT11/AIN2) (io), 6 PD0 (OC.0B/INT0) (io), 7 PD1 (AIN0/INT1) (io), 8 PD2 (RXD1/AIN1/INT2) (io), 9 PD3 (TXD1/INT3) (io), 10 PD4 (INT5/AIN3) (io), 11 PD5 (XCK AIN4/PCINT12) (io), 12 PD6 (~{RTS}/AIN5/INT6) (io), 13 PD7 (~{CTS}/~{HWB}/AIN6/T0/INT7) (io), 14 PB0 (~{SS}/PCINT0) (io), 15 PB1 (SCLK/PCINT1) (io), 16 PB2 (PDI/MOSI/PCINT2) (io), 17 PB3 (PDO/MISO/PCINT3) (io), 18 PB4 (T1/PCINT4) (io), 19 PB6 (PCINT6) (io), 20 PB7 (PCINT7/OC.0A/OC.1C) (io), 21 PB5 (PCINT5) (io), 22 PC7 (INT4/ICP1/CLKO) (io), 23 PC6 (OC.1A/PCINT8) (io), 24 ~{Reset} (PC1/dW) (io), 25 PC5 (PCINT9/OC.1B) (io), 26 PC4 (PCINT10) (io), 27 UCAP (power), 28 UGND (power), 29 D+ (io), 30 D- (io), 31 UVCC (power), 32 AVCC (power), 33 DAP (power)

## ATmega328P-AU
designator U?
8-bit AVR Microcontroller, 32KB Flash, 1KB EEPROM, 2KB SRAM, 32-pin TQFP, Industrial Grade (-40 Centigrade to 85 Centigrade); Published: 1-Apr-2010; DatasheetVersion: revA, Jan-2010; PackageVersion: revB, Oct-2001; PackageReference: 32A; Publisher: Altium Limited; PackageDescription: 32-Lead, 7x7x1.0 mm Body, 0.8mm Lead Pitch, Thin Profile Plastic Quad Flat Package (TQFP); Supplier 1: Digi-Key; Supplier Part Number 1: ATMEGA328P-AU-ND; Supplier 2: Farnell; Supplier Part Number 2: 1715486; Supplier 3: Mouser; Supplier Part Number 3: 556-ATMEGA328P-AU; Code_JEDEC: MS-026-ABA; ComponentLink1Description: Manufacturer Link; ComponentLink1URL: http://www.atmel.com/products/avr/default.asp?; ComponentLink2Description: ATmega48A/48PA/88A/88PA/168A/168PA/328/328P Datasheet; ComponentLink2URL: http://www.atmel.com/dyn/resources/prod_documents/8271.pdf; ComponentLink3Description: ATmega48A/48PA/88A/88PA/168A/168PA/328/328P Summary; ComponentLink3URL: http://www.atmel.com/dyn/resources/prod_documents/8271S.pdf; ComponentLink4Description: Atmel.com Home; ComponentLink4URL: http://www.atmel.com
footprint LQFP32_L (Thin QFP, 32-Leads, Body 7x7mm, Pitch 0.8mm, IPC High Density)
footprint LQFP32_M (Thin QFP, 32-Leads, Body 7x7mm, Pitch 0.8mm, IPC Low Density)
footprint LQFP32_N (Thin QFP, 32-Leads, Body 7x7mm, Pitch 0.8mm, IPC Medium Density)
pins: 1 PD3 (PCINT19/OC2B/INT1) (io), 2 PD4 (PCINT20/XCK/T0) (io), 3 GND (power), 4 VCC (power), 5 GND (power), 6 VCC (power), 7 PB6 (PCINT6/XTAL1/TOSC1) (io), 8 PB7 (PCINT7/XTAL2/TOSC2) (io), 9 PD5 (PCINT21/OC0B/T1) (io), 10 PD6 (PCINT22/OC0A/AIN0) (io), 11 PD7 (PCINT23/AIN1) (io), 12 PB0 (PCINT0/CLKO/ICP1) (io), 13 PB1 (PCINT1/OC1A) (io), 14 PB2 (PCINT2/~{SS}/OC1B) (io), 15 PB3 (PCINT3/OC2A/MOSI) (io), 16 PB4 (PCINT4/MISO) (io), 17 PB5 (SCK/PCINT5) (io), 18 AVCC (power), 19 ADC6 (in), 20 AREF, 21 GND (power), 22 ADC7 (in), 23 PC0 (ADC0/PCINT8) (io), 24 PC1 (ADC1/PCINT9) (io), 25 PC2 (ADC2/PCINT10) (io), 26 PC3 (ADC3/PCINT11) (io), 27 PC4 (ADC4/SDA/PCINT12) (io), 28 PC5 (ADC5/SCL/PCINT13) (io), 29 PC6 (~{RESET}/PCINT14) (io), 30 PD0 (RXD/PCINT16) (io), 31 PD1 (TXD/PCINT17) (io), 32 PD2 (INT0/PCINT18) (io)

## BAT54C
designator D?
双肖特基二极管
footprint SOT-23 (SOT-23; 3 Leads; Body 3.0 x 2.5 mm, inc. leads (LxW max))
pins: 1, 2, 3

## BATTERY-3.0V
designator BAT?, comment BATTERY3.0V
footprint BATTERY3.0V
pins: 1 +, 2 -
text: +3.0v

## BATTERY_18650_BOX
designator BAT?
footprint BATTERY_18650_BOX
pins: 1 +, 2 -

## BATTERY_CR
designator BAT?
CR1220/CR2032
footprint BATTERY_CR1220 (CR1220)
footprint BATTERY_CR2032 (CR2032)
pins: 1 +, 2 -

## BC26
designator M?
NB-Iot模组
footprint BC26
pins: 1 GND, 2 RESERVED, 3 RESERVED, 4 RESERVED, 5 RESERVED, 6 RESERVED, 7 PWRKEY, 8 RESERVED, 9 ADC0, 10 SIM_GND, 11 SIM_DATA, 12 SIM_RST, 13 SIM_CLK, 14 SIM_VDD, 15 RESET, 16 NETLIGHT, 17 RXD, 18 TXD, 19 PSM_EINT, 20 RI, 21 RESERVED, 22 RESERVED, 23 RESERVED, 24 VDD_EXT, 25 RESERVED, 26 RESERVED, 27 GND, 28 RXD_AUX, 29 TXD_AUX, 30 RESERVED, 31 RESERVED, 32 RESERVED, 33 RESERVED, 34 GND, 35 RF_ANT, 36 GND, 37 GND, 38 RXD_DBG, 39 TXD_DBG, 40 GND, 41 GND, 42 VBAT_BB, 43 VBAT_RF, 44 RESERVED, 45, 46, 47 USB_MODE, 48, 49 VUSB_3V3, 50 USB_DP, 51 USB_DM, 52, 53, 54, 55, 56, 57, 58

## BEAD
designator B?
贴片磁珠
footprint 0402_RES_SMT
pins: 1, 2

## BH1750FVI
designator U?
环境光传感器
pins: 1 VCC, 2 ADDR, 3 GND, 4 SDA, 5 DVI, 6 SCL

## BISS0001
designator U?
热释电传感器功放芯片
footprint SOP-16 (16-Pin Small Outline Integrated Circuit 1.27 mm Pitch, IPC Low Density)
pins: 1 A, 2 VO, 3 RR1, 4 RC1, 5 RC2, 6 RR2, 7 VSS, 8 VRF, 9 VC, 10 IB, 11 VDD, 12 2OUT, 13 2IN-, 14 1IN+, 15 1IN-, 16 1OUT

## BMP085
designator U?
footprint BMP085 (BMP085 SMD Digital barometric pressure sensor)
pins: 1 GND, 2 EOC, 3 VDDA, 4 VDDD, 5 NC, 6 SCL, 7 SDA, 8 XCLR

## BQ27200-DRK-10
designator U?
SINGLE CELL Li-Ion AND Li-Pol BATTERY GAS GAUGE IC FOR PORTABLE  APPLICATIONS (bqJUNIOR); Manufacturer: Texas Instruments; GENERIC_PART_NUMBER: BQ27200; INDUSTRY_STD_PKG_TYPE: VSON; FAMILY_NAME: BATTERY FUEL GAUGE; PIN_COUNT: 10; PACKAGE_DESIGNATOR: DRK; Datasheet URL: http://www.ti.com/lit/gpn/BQ27200; RefDes: RefDes; Type: DEV; Value: Value
footprint BQ27X00-DRK-10 (BQ27200,BQ27000 DRK(S-PVSON-N10))
pins: 1 RBI, 2 VCC (power), 3 VSS (power), 4 SCL, 5 SDA, 6 BAT, 7 SRN, 8 SRP, 9 GPIO, 10 PGM, 11 EPAD (power)

## BS808B-SSOP-20
designator U?
BS808B is 8 key  touch key devices which can detect human body contact  using external touch pads.
footprint SSOP-20Q (SSOP; 20 Leads; Body Width 3.9 mm; Pitch 0.64 mm)
pins: 1 Key0 "Touch key n input. These pins are connected to the external touch key.", 2 Key1 "Touch key n input. These pins are connected to the external touch key.", 3 Key2 "Touch key n input. These pins are connected to the external touch key.", 4 Key3 "Touch key n input. These pins are connected to the external touch key.", 5 Key4 "Touch key n input. These pins are connected to the external touch key.", 6 Key5 "Touch key n input. These pins are connected to the external touch key.", 7 Key6 "Touch key n input. These pins are connected to the external touch key.", 8 Key7 "Touch key n input. These pins are connected to the external touch key.", 9 Cref "Touch key reference capacitor input - value range of 0pF to 10pF - higher capacitance values  result in higher sensitivities.", 10 VSS "Negative power supply, ground.", 11 OKW "Selects One-key wake-up or Any-key wake-up.", 12 VDD "Positive power supply.", 13 Kout7 "Touch key n output pin.", 14 Kout6 "Touch key n output pin.", 15 Kout5 "Touch key n output pin.", 16 Kout4 "Touch key n output pin.", 17 Kout3 "Touch key n output pin.", 18 Kout2 "Touch key n output pin.", 19 Kout1 "Touch key n output pin.", 20 Kout0 "Touch key n output pin."

## BSS84-P-Ch-MOSFET
designator Q?
BSS84-P-Ch,-0.13A, -50V.RDS(ON) = 10Ω @ VGS = -5 V
footprint BSS84-P-Ch-MOSFET
pins: 1 G, 2 S, 3 D

## BTB0.8_12F
designator J?
BTB0.8-12M/F-6.0LG
footprint BTB0.8_12F (BTB0.8-12M/F-6.0LG)
pins: 1, 2, 3, 4, 5, 6, 7, 8, 9, 10, 11, 12

## BTB0.8_12M
designator J?
BTB0.8-12M/F-6.0LG
footprint BTB0.8_12M (BTB0.8-12M/F-6.0LG)
pins: 1, 2, 3, 4, 5, 6, 7, 8, 9, 10, 11, 12

## BTL004
designator U?
footprint BTL004
pins: 1 COM0, 2 COM1, 3 COM2, 4 COM3, 5 S0, 6 S1, 7 S2, 8 S3, 9 S4, 10 S5, 11 S6, 12 S7, 13 S8, 14 S9, 15 S10, 16 S11, 17 S12, 18 S13, 19 S14, 20 S15

## BTL008
designator U?
footprint BTL008
pins: 1 COM0, 2 COM1, 3 COM2, 4 COM3, 5 S0, 6 S1, 7 S2, 8 S3, 9 S4, 10 S5, 11 S6, 12 S7, 13 S8, 14 S9, 15 S10, 16 S11, 17 S12, 18 S13, 19 S14, 20 S15

## BTL010
designator U?
footprint BTL010
pins: 1 NC, 2 COM0, 3 COM1, 4 COM2, 5 COM3, 6 S0, 7 S1, 8 S2, 9 S3, 10 S4, 11 S5, 12 S6, 13 S7, 14 S8, 15 NC

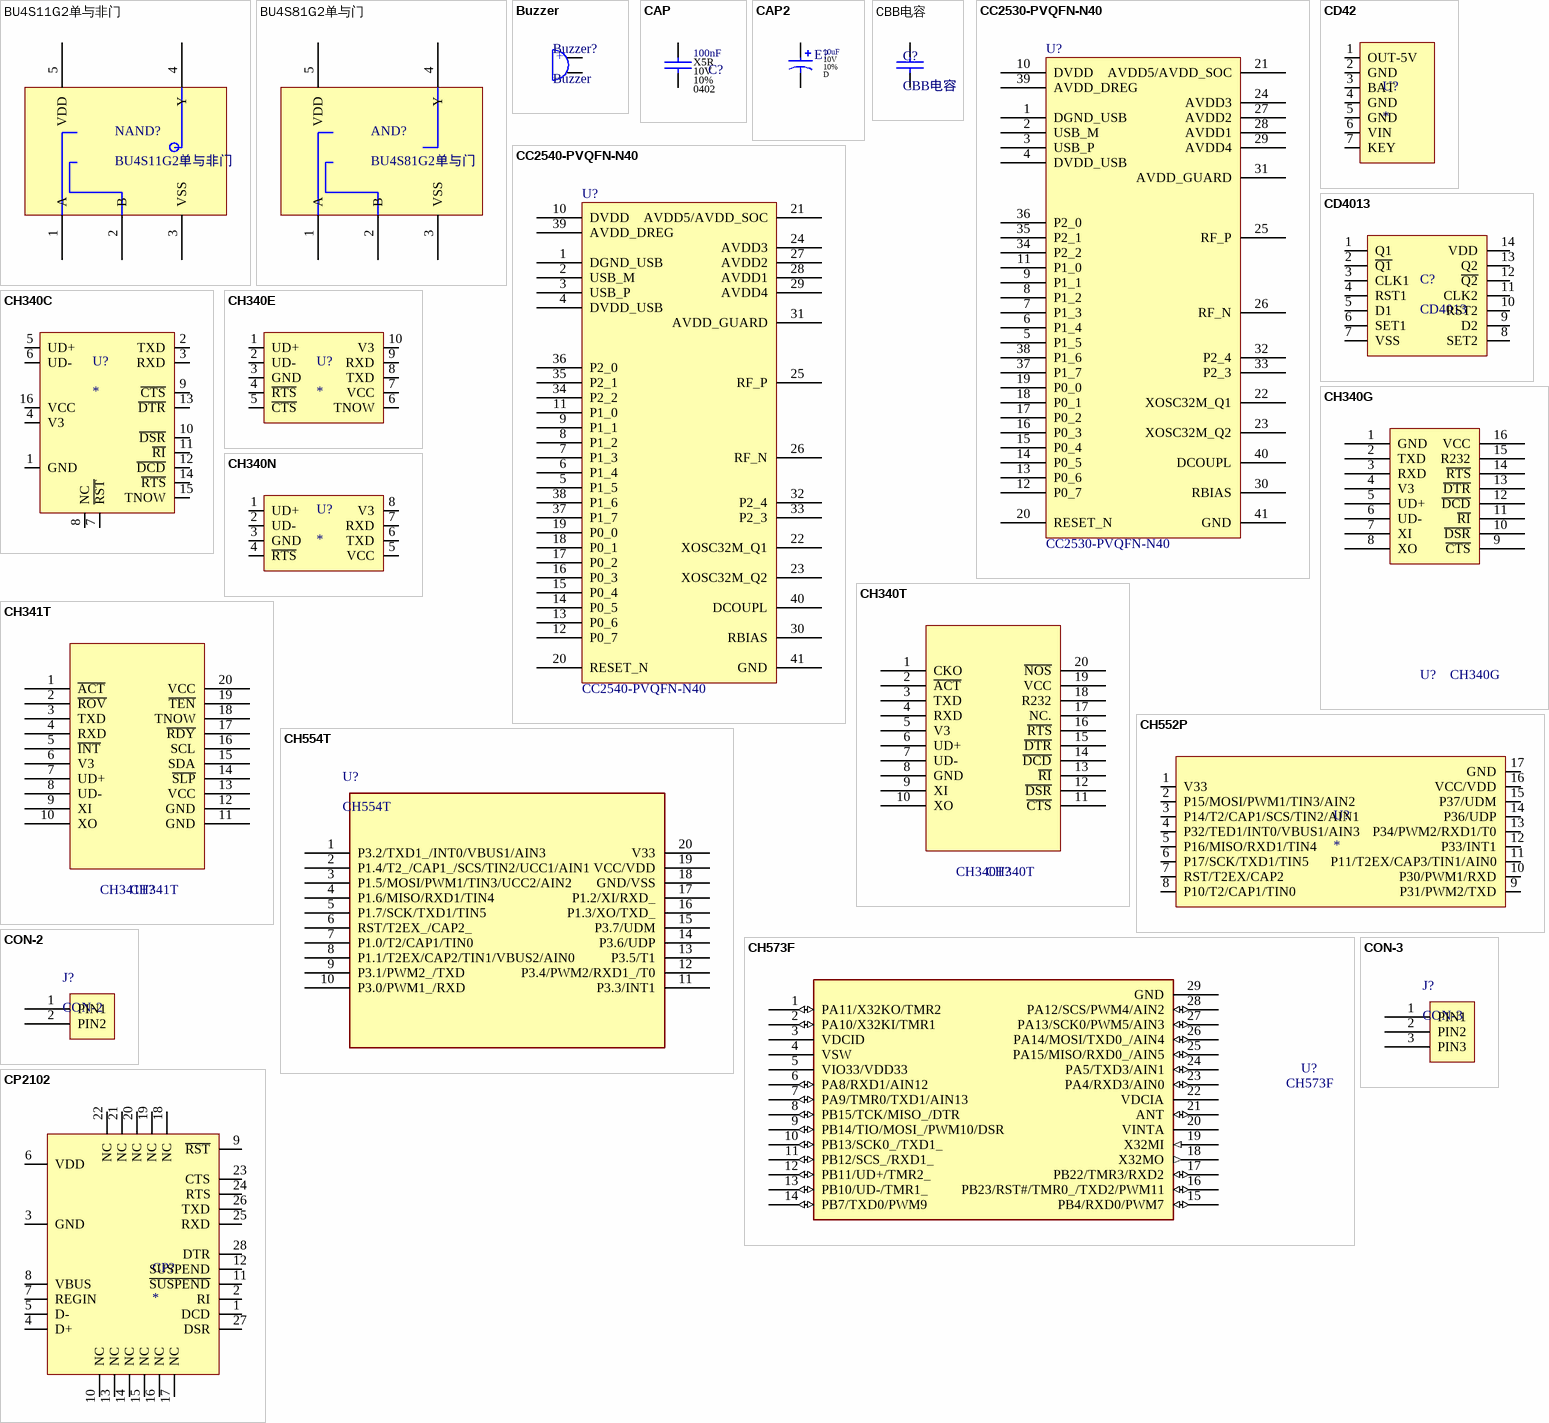
[diagram p4: symbols BU4S11G2单与非门 to CP2102]

## BU4S11G2单与非门
designator NAND?
footprint BU4S11G2单与非门
pins: 1 A, 2 B, 3 VSS, 4 Y, 5 VDD

## BU4S81G2单与门
designator AND?
footprint BU4S81G2单与门
pins: 1 A, 2 B, 3 VSS, 4 Y, 5 VDD

## Buzzer
designator Buzzer?
footprint Buzzer
footprint BUZZER-SMALL-PAD
pins: 1, 2
text: +

## CAP
designator C?  value 100nF  Dielectric: X5R  Voltage: 10V  Footprint: 0402  Tolerance: 10%
陶瓷电容
footprint 0402_CAP_SMT
footprint 0603_CAP_SMT
footprint 0805_CAP_SMT
pins: 1, 2

## CAP2
designator E?  value 10uF  Tolerance: 10%  Voltage Range: 10V  Footprint: D
极性电容
footprint 1206-CAP-TAN
pins: 1, 2
1 alternate drawing of the same symbol

## CBB电容
designator C?
footprint CBB电容-5mm (CBB电容)
footprint CBB电容-10mm (CBB电容)
footprint CBB电容-15mm (CBB电容)
footprint CBB电容-20mm (CBB电容)
footprint CBB电容-25mm (CBB电容)
pins: 1, 2

## CC2530-PVQFN-N40
designator U?
footprint CC2530-PVQFN-N40 (CC2530)
pins: 1 DGND_USB, 2 USB_M, 3 USB_P, 4 DVDD_USB, 5 P1_5, 6 P1_4, 7 P1_3, 8 P1_2, 9 P1_1, 10 DVDD, 11 P1_0, 12 P0_7, 13 P0_6, 14 P0_5, 15 P0_4, 16 P0_3, 17 P0_2, 18 P0_1, 19 P0_0, 20 RESET_N, 21 AVDD5/AVDD_SOC, 22 XOSC32M_Q1, 23 XOSC32M_Q2, 24 AVDD3, 25 RF_P, 26 RF_N, 27 AVDD2, 28 AVDD1, 29 AVDD4, 30 RBIAS, 31 AVDD_GUARD, 32 P2_4, 33 P2_3, 34 P2_2, 35 P2_1, 36 P2_0, 37 P1_7, 38 P1_6, 39 AVDD_DREG, 40 DCOUPL, 41 GND

## CC2540-PVQFN-N40
designator U?
footprint CC2540-PVQFN-N40 (CC2540)
pins: 1 DGND_USB, 2 USB_M, 3 USB_P, 4 DVDD_USB, 5 P1_5, 6 P1_4, 7 P1_3, 8 P1_2, 9 P1_1, 10 DVDD, 11 P1_0, 12 P0_7, 13 P0_6, 14 P0_5, 15 P0_4, 16 P0_3, 17 P0_2, 18 P0_1, 19 P0_0, 20 RESET_N, 21 AVDD5/AVDD_SOC, 22 XOSC32M_Q1, 23 XOSC32M_Q2, 24 AVDD3, 25 RF_P, 26 RF_N, 27 AVDD2, 28 AVDD1, 29 AVDD4, 30 RBIAS, 31 AVDD_GUARD, 32 P2_4, 33 P2_3, 34 P2_2, 35 P2_1, 36 P2_0, 37 P1_7, 38 P1_6, 39 AVDD_DREG, 40 DCOUPL, 41 GND

## CD42
designator U?
5V2A 充放电一体模块
footprint CD42 (5V2A充放电一体板)
pins: 1 OUT-5V, 2 GND, 3 BAT, 4 GND, 5 GND, 6 VIN, 7 KEY

## CD4013
designator C?
footprint SOP-16
pins: 1 Q1, 2 ~{Q1}, 3 CLK1, 4 RST1, 5 D1, 6 SET1, 7 VSS, 8 SET2, 9 D2, 10 RST2, 11 CLK2, 12 ~{Q2}, 13 Q2, 14 VDD

## CH340C
designator U?
内置晶振
footprint SOP-16
pins: 1 GND, 2 TXD, 3 RXD, 4 V3, 5 UD+, 6 UD-, 7 ~{RST}, 8 NC, 9 ~{CTS}, 10 ~{DSR}, 11 ~{RI}, 12 ~{DCD}, 13 ~{DTR}, 14 ~{RTS}, 15 TNOW, 16 VCC

## CH340E
designator U?
内置晶振,MSOP10
footprint MSOP10
pins: 1 UD+, 2 UD-, 3 GND, 4 ~{RTS}, 5 ~{CTS}, 6 TNOW, 7 VCC, 8 TXD, 9 RXD, 10 V3

## CH340G
designator U?
CH340G USB to serial (UART) bridge
footprint SOP-16 (16-Pin Small Outline Integrated Circuit 1.27 mm Pitch, IPC Low Density)
pins: 1 GND, 2 TXD, 3 RXD, 4 V3, 5 UD+, 6 UD-, 7 XI, 8 XO, 9 ~{CTS}, 10 ~{DSR}, 11 ~{RI}, 12 ~{DCD}, 13 ~{DTR}, 14 ~{RTS}, 15 R232, 16 VCC

## CH340N
designator U?
内置晶振
footprint SOP-8 (8-Pin Small Outline Integrated Circuit 1.27 mm Pitch, IPC Low Density)
pins: 1 UD+, 2 UD-, 3 GND, 4 ~{RTS}, 5 VCC, 6 TXD, 7 RXD, 8 V3

## CH340T
designator CH340T?
footprint CH340T
pins: 1 CKO, 2 ~{ACT}, 3 TXD, 4 RXD, 5 V3, 6 UD+, 7 UD-, 8 GND, 9 XI, 10 XO, 11 ~{CTS}, 12 ~{DSR}, 13 ~{RI}, 14 ~{DCD}, 15 ~{DTR}, 16 ~{RTS}, 17 NC., 18 R232, 19 VCC, 20 ~{NOS}

## CH341T
designator CH341T?
footprint CH341T
pins: 1 ~{ACT}, 2 ~{ROV}, 3 TXD, 4 RXD, 5 ~{INT}, 6 V3, 7 UD+, 8 UD-, 9 XI, 10 XO, 11 GND, 12 GND, 13 VCC, 14 ~{SLP}, 15 SDA, 16 SCL, 17 ~{RDY}, 18 TNOW, 19 ~{TEN}, 20 VCC

## CH552P
designator U?
footprint QFN_16 (QFN16)
pins: 1 V33, 2 P15/MOSI/PWM1/TIN3/AIN2, 3 P14/T2/CAP1/SCS/TIN2/AIN1, 4 P32/TED1/INT0/VBUS1/AIN3, 5 P16/MISO/RXD1/TIN4, 6 P17/SCK/TXD1/TIN5, 7 RST/T2EX/CAP2, 8 P10/T2/CAP1/TIN0, 9 P31/PWM2/TXD, 10 P30/PWM1/RXD, 11 P11/T2EX/CAP3/TIN1/AIN0, 12 P33/INT1, 13 P34/PWM2/RXD1/T0, 14 P36/UDP, 15 P37/UDM, 16 VCC/VDD, 17 GND

## CH554T
designator U?
CH554T USB Microcontroller
footprint TSSOP20 (SSOP; 20 Leads; Body Width 3.9 mm; Pitch 0.64 mm)
pins: 1 P3.2/TXD1_/INT0/VBUS1/AIN3, 2 P1.4/T2_/CAP1_/SCS/TIN2/UCC1/AIN1, 3 P1.5/MOSI/PWM1/TIN3/UCC2/AIN2, 4 P1.6/MISO/RXD1/TIN4, 5 P1.7/SCK/TXD1/TIN5, 6 RST/T2EX_/CAP2_, 7 P1.0/T2/CAP1/TIN0, 8 P1.1/T2EX/CAP2/TIN1/VBUS2/AIN0, 9 P3.1/PWM2_/TXD, 10 P3.0/PWM1_/RXD, 11 P3.3/INT1, 12 P3.4/PWM2/RXD1_/T0, 13 P3.5/T1, 14 P3.6/UDP, 15 P3.7/UDM, 16 P1.3/XO/TXD_, 17 P1.2/XI/RXD_, 18 GND/VSS (power), 19 VCC/VDD (power), 20 V33 (power)

## CH573F
designator U?
RISC-V MCU with BLE/USB/ADC/SPI/4*UART
footprint QFN_28_4X4_0P4MM (QFN28, 0.4Pitch, 4.0x4.0mm)
pins: 1 PA11/X32KO/TMR2 (io), 2 PA10/X32KI/TMR1 (io), 3 VDCID (power), 4 VSW (power), 5 VIO33/VDD33 (power), 6 PA8/RXD1/AIN12 (io), 7 PA9/TMR0/TXD1/AIN13 (io), 8 PB15/TCK/MISO_/DTR (io), 9 PB14/TIO/MOSI_/PWM10/DSR (io), 10 PB13/SCK0_/TXD1_ (io), 11 PB12/SCS_/RXD1_ (io), 12 PB11/UD+/TMR2_ (io), 13 PB10/UD-/TMR1_ (io), 14 PB7/TXD0/PWM9 (io), 15 PB4/RXD0/PWM7 (io), 16 PB23/RST#/TMR0_/TXD2/PWM11 (io), 17 PB22/TMR3/RXD2 (io), 18 X32MO (out), 19 X32MI (in), 20 VINTA (power), 21 ANT (io), 22 VDCIA (power), 23 PA4/RXD3/AIN0 (io), 24 PA5/TXD3/AIN1 (io), 25 PA15/MISO/RXD0_/AIN5 (io), 26 PA14/MOSI/TXD0_/AIN4 (io), 27 PA13/SCK0/PWM5/AIN3 (io), 28 PA12/SCS/PWM4/AIN2 (io), 29 GND (power)

## CON-2
designator J?
footprint CON2-2.0mm
footprint CON2-5.08mm-SCREW
pins: 1 PIN1, 2 PIN2

## CON-3
designator J?
footprint CON3-2.54mm-KF
footprint CON3-5.08mm-SCREW
pins: 1 PIN1, 2 PIN2, 3 PIN3

## CP2102
designator CP?
CP2102
footprint QFN28
pins: 1 DCD, 2 RI, 3 GND (power), 4 D+, 5 D-, 6 VDD (power), 7 REGIN, 8 VBUS, 9 ~{RST}, 10 NC, 11 ~{SUSPEND}, 12 SUSPEND, 13 NC, 14 NC, 15 NC, 16 NC, 17 NC, 18 NC, 19 NC, 20 NC, 21 NC, 22 NC, 23 CTS, 24 RTS, 25 RXD, 26 TXD, 27 DSR, 28 DTR

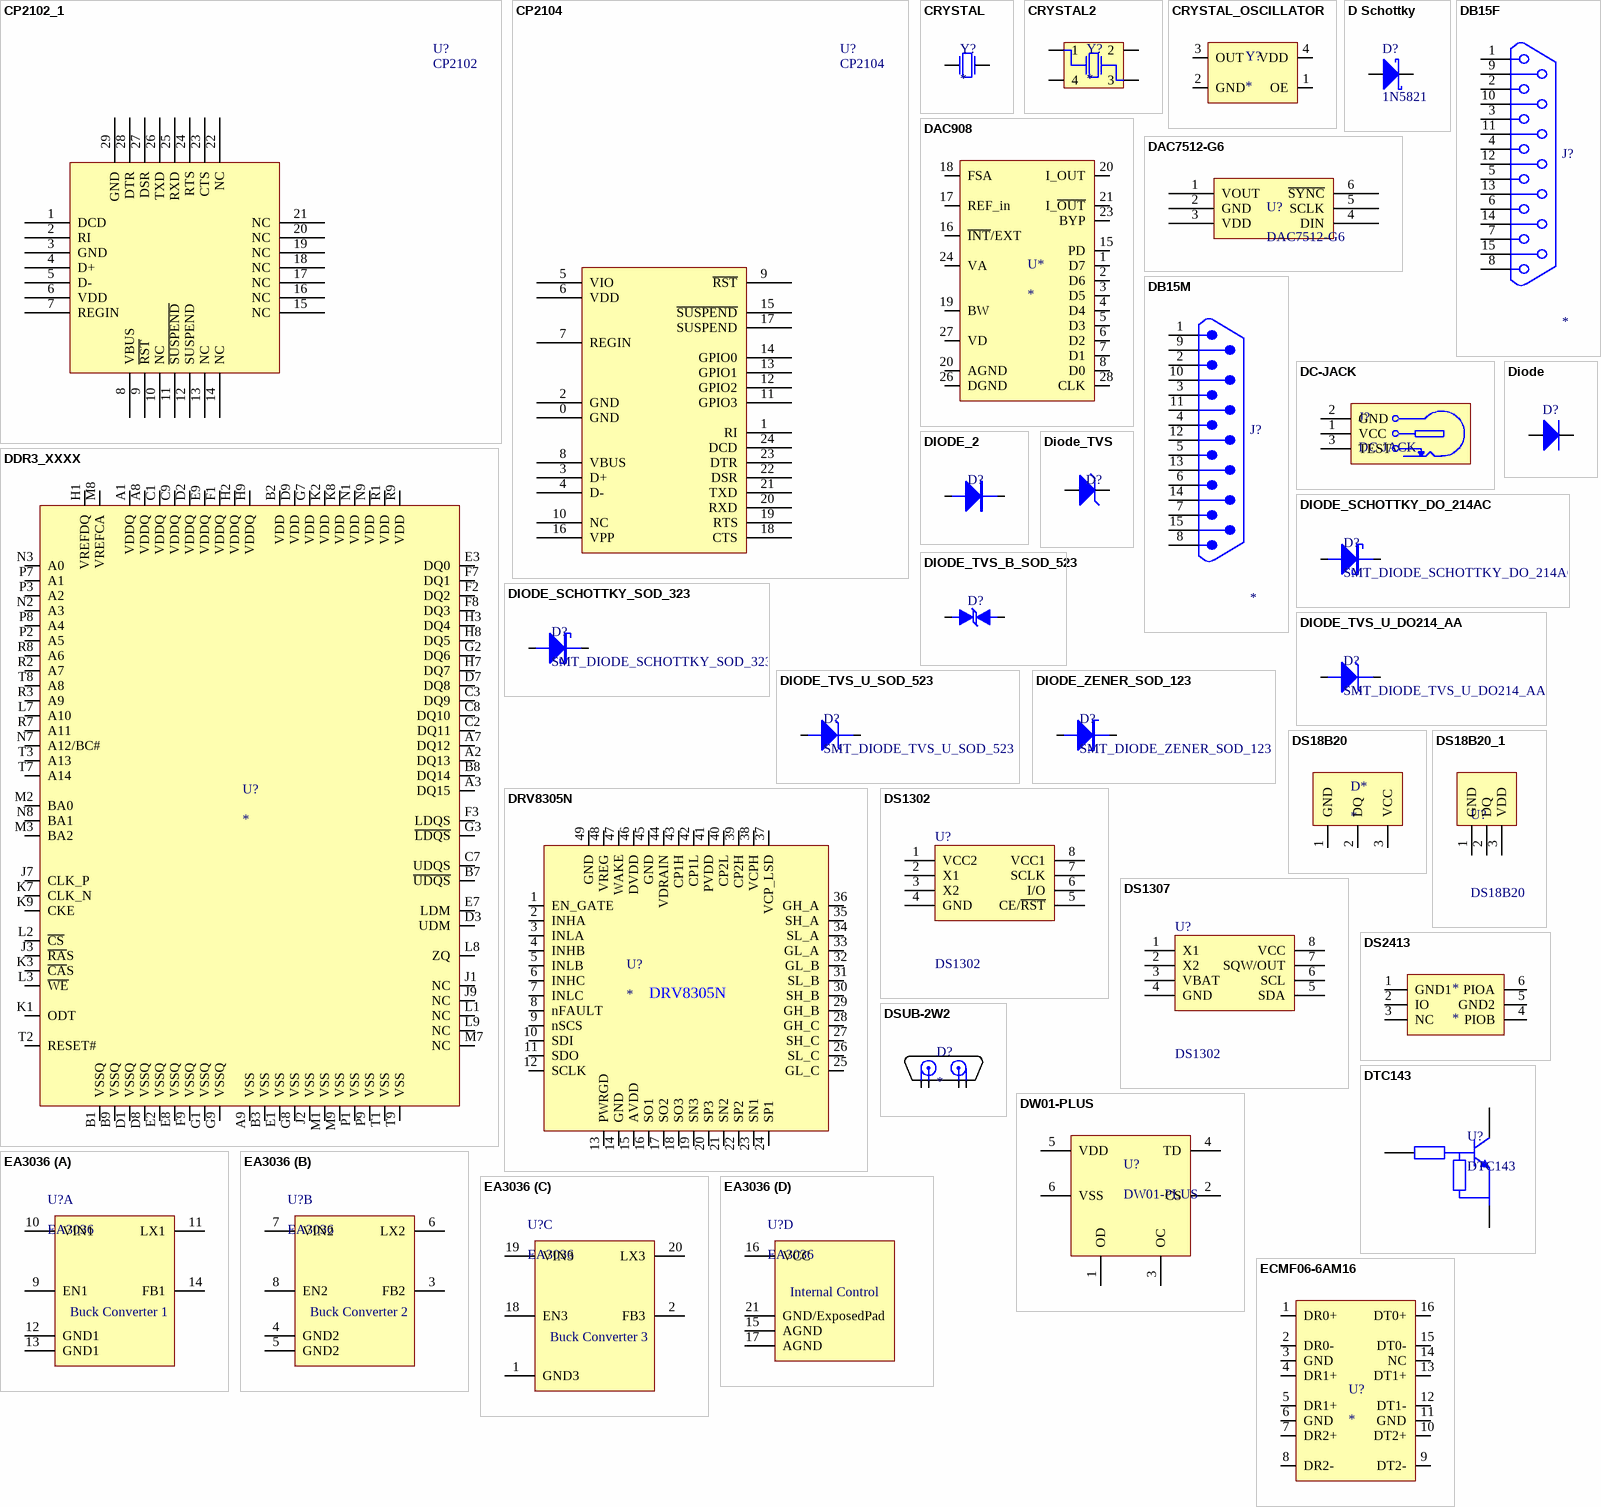
[diagram p5: symbols CP2102_1 to ECMF06-6AM16]

## CP2102_1
designator U?, comment CP2102
footprint CP2102
pins: 1 DCD, 2 RI, 3 GND, 4 D+, 5 D-, 6 VDD, 7 REGIN, 8 VBUS, 9 ~{RST}, 10 NC, 11 ~{SUSPEND}, 12 SUSPEND, 13 NC, 14 NC, 15 NC, 16 NC, 17 NC, 18 NC, 19 NC, 20 NC, 21 NC, 22 NC, 23 CTS, 24 RTS, 25 RXD, 26 TXD, 27 DSR, 28 DTR, 29 GND

## CP2104
designator U?
Single-Chip USB to UART Bridge
footprint QFN24 (QFN24, 0.5Pitch, 4.0x4.0mm)
pins: 0 GND "Ground. Optional.", 1 RI "Ring Indicator control input (active low)", 2 GND "Ground. Must be tied to ground.", 3 D+ "USB D+", 4 D- "USB D–", 5 VIO "I/O Supply Voltage Input.", 6 VDD "Power Supply Voltage Input.  Voltage Regulator Output.", 7 REGIN "5 V Regulator Input. This pin is the input to the on-chip voltage regulator.", 8 VBUS "VBUS Sense Input. This pin should be connected to the VBUS signal  of a USB network.", 9 ~{RST} "Device Reset. Open-drain output of internal POR or VDD monitor. An  external source can initiate a system reset by driving this pin low for the time specified in datasheet.", 10 NC "This pin should be left unconnected or tied to VIO.", 11 GPIO3 "User-configurable input or output.", 12 GPIO2 "User-configurable input or output.", 13 GPIO1 "User-configurable input or output.", 14 GPIO0 "User-configurable input or output.", 15 ~{SUSPEND} "This pin is logic low when the CP2104 is in the USB Suspend state.", 16 VPP "Connect a 4.7 μF capacitor between this pin and ground to support  ROM programming via USB interface.", 17 SUSPEND "This pin is logic high when the CP2104 is in the USB Suspend state.", 18 CTS "Clear to Send control input (active low)", 19 RTS "Ready to Send control output (active low)", 20 RXD "Asynchronous data input (UART Receive)", 21 TXD "Asynchronous data output (UART Transmit)", 22 DSR "Data Set Ready control input (active low)", 23 DTR "Data Terminal Ready control output (active low)", 24 DCD "Data Carrier Detect control input (active low)"

## CRYSTAL
designator Y?
无源晶振
pins: 1 P1, 2 P2

## CRYSTAL2
designator Y?
贴片无源晶振
pins: 1, 2, 3, 4

## CRYSTAL_OSCILLATOR
designator Y?
footprint X4-2520_S
pins: 1 OE, 2 GND, 3 OUT, 4 VDD

## D Schottky
designator D?, comment 1N5821
肖特基二极管; Published: 8-Jun-2000; LatestRevisionDate: 17-Jul-2002; LatestRevisionNote: Re-released for DXP Platform.; PackageReference: SMB; Publisher: Altium Limited; Code_JEDEC: DO-214-AA
pins: 1 A, 2 K

## DAC908
designator U*
pins: 1 D7, 2 D6, 3 D5, 4 D4, 5 D3, 6 D2, 7 D1, 8 D0, 15 PD, 16 ~{INT}/EXT, 17 REF_in, 18 FSA, 19 BW, 20 AGND, 20 I_OUT, 21 I_~{OUT}, 23 BYP, 24 VA, 26 DGND, 27 VD, 28 CLK

## DAC7512-G6
designator U?
footprint DAC7512-G6
pins: 1 VOUT, 2 GND, 3 VDD, 4 DIN, 5 SCLK, 6 ~{SYNC}

## DB15F
designator J?
jointbar
footprint DB-15F
footprint VGA F
pins: 1, 2, 3, 4, 5, 6, 7, 8, 9, 10, 11, 12, 13, 14, 15

## DB15M
designator J?
jointbar
footprint DB-15M
pins: 1, 2, 3, 4, 5, 6, 7, 8, 9, 10, 11, 12, 13, 14, 15

## DC-JACK
designator J?
电源插孔
footprint DC-JACK-6.2mm
footprint DC-JACK-6.2mm-ROUND (电源插孔)
footprint DC-JACK-SMD-2.5MM
pins: 1 VCC, 2 GND, 3 TEST

## DDR3_XXXX
designator U?
footprint FBGA_96
pins: A1 VDDQ, A2 DQ13, A3 DQ15, A7 DQ12, A8 VDDQ, A9 VSS, B1 VSSQ, B2 VDD, B3 VSS, B7 ~{UDQS}, B8 DQ14, B9 VSSQ, C1 VDDQ, C2 DQ11, C3 DQ9, C7 UDQS, C8 DQ10, C9 VDDQ, D1 VSSQ, D2 VDDQ, D3 UDM, D7 DQ8, D8 VSSQ, D9 VDD, E1 VSS, E2 VSSQ, E3 DQ0, E7 LDM, E8 VSSQ, E9 VDDQ, F1 VDDQ, F2 DQ2, F3 LDQS, F7 DQ1, F8 DQ3, F9 VSSQ, G1 VSSQ, G2 DQ6, G3 ~{LDQS}, G7 VDD, G8 VSS, G9 VSSQ, H1 VREFDQ, H2 VDDQ, H3 DQ4, H7 DQ7, H8 DQ5, H9 VDDQ, J1 NC, J2 VSS, J3 ~{RA}S, J7 CLK_P, J9 NC, K1 ODT, K2 VDD, K3 ~{CA}S, K7 CLK_N, K8 VDD, K9 CKE, L1 NC, L2 ~{CS}, L3 ~{WE}, L7 A10, L8 ZQ, L9 NC, M1 VSS, M2 BA0, M3 BA2, M7 NC, M8 VREFCA, M9 VSS, N1 VDD, N2 A3, N3 A0, N7 A12/BC#, N8 BA1, N9 VDD, P1 VSS, P2 A5, P3 A2, P7 A1, P8 A4, P9 VSS, R1 VDD, R2 A7, R3 A9, R7 A11, R8 A6, R9 VDD, T1 VSS, T2 RESET#, T3 A13, T7 A14, T8 A8, T9 VSS

## Diode
designator D?
1 Amp General Purpose Rectifier; Published: 8-Jun-2000; LatestRevisionDate: 17-Jul-2002; LatestRevisionNote: Re-released for DXP Platform.; DatasheetVersion: 1998; PackageVersion: Aug-1999; PackageReference: DO-41; Publisher: Altium Limited; Code_JEDEC: DO-204-AL; ComponentLink1Description: Manufacturer Link; ComponentLink1URL: http://www.fairchildsemi.com/; ComponentLink2Description: Datasheet; ComponentLink2URL: http://www.fairchildsemi.com/ds/1N%2F1N4001.pdf
footprint SOD-123 (Diode)
footprint SOD-323 (Diode)
footprint SOD-523 (Diode)
pins: 1 A, 2 K

## DIODE_2
designator D?
footprint SMT_DIODE_SOD_123 (SOD-123(1206) Package)
pins: 1 A, 2 K

## DIODE_SCHOTTKY_DO_214AC
designator D?, comment SMT_DIODE_SCHOTTKY_DO_214AC
Surface mount schottky diode DO-214AC(SMA) Package
footprint SMT_DIODE_DO_214AC (DO-214AC(SMA) Package)
pins: 1 A, 2 K

## DIODE_SCHOTTKY_SOD_323
designator D?, comment SMT_DIODE_SCHOTTKY_SOD_323
Surface mount schottky diode SOD-323(0805) Package
footprint SMT_DIODE_SOD_323 (SOD-323(0805) Package)
pins: 1 A, 2 K

## Diode_TVS
designator D?
1 Amp General Purpose Rectifier; Published: 8-Jun-2000; LatestRevisionDate: 17-Jul-2002; LatestRevisionNote: Re-released for DXP Platform.; DatasheetVersion: 1998; PackageVersion: Aug-1999; PackageReference: DO-41; Publisher: Altium Limited; Code_JEDEC: DO-204-AL; ComponentLink1Description: Manufacturer Link; ComponentLink1URL: http://www.fairchildsemi.com/; ComponentLink2Description: Datasheet; ComponentLink2URL: http://www.fairchildsemi.com/ds/1N%2F1N4001.pdf
footprint 0805
footprint PDS5100
footprint R - 6
pins: 1 A, 2 K

## DIODE_TVS_B_SOD_523
designator D?
Surface mount bidirectional TVS diode SOD-523(0603) Package
footprint SMT_DIODE_SOD_523 (SOD-523(0603) Package)
pins: 1 A, 2 K

## DIODE_TVS_U_DO214_AA
designator D?, comment SMT_DIODE_TVS_U_DO214_AA
Surface mount unidirectional TVS diode DO-214AA(SMB) Package
footprint SMT_DIODE_DO_214AA (DO-214AA(SMB) Package)
pins: 1 A, 2 K

## DIODE_TVS_U_SOD_523
designator D?, comment SMT_DIODE_TVS_U_SOD_523
Surface mount unidirectional TVS diode SOD-523(0603) Package
footprint SMT_DIODE_SOD_523 (SOD-523(0603) Package)
pins: 1 A, 2 K

## DIODE_ZENER_SOD_123
designator D?, comment SMT_DIODE_ZENER_SOD_123
Surface mount zener diode SOD-123(1206) Package
footprint SMT_DIODE_SOD_123 (SOD-123(1206) Package)
pins: 1 A, 2 K

## DRV8305N
designator U?
DRV8305-Q1 集成三个分流放大器和稳压器的三相汽车智能栅极驱动器
footprint HTQFP (热增强型QFP封装)
pins: 1 EN_GATE, 2 INHA, 3 INLA, 4 INHB, 5 INLB, 6 INHC, 7 INLC, 8 nFAULT, 9 nSCS, 10 SDI, 11 SDO, 12 SCLK, 13 PWRGD, 14 GND, 15 AVDD, 16 SO1, 17 SO2, 18 SO3, 19 SN3, 20 SP3, 21 SN2, 22 SP2, 23 SN1, 24 SP1, 25 GL_C, 26 SL_C, 27 SH_C, 28 GH_C, 29 GH_B, 30 SH_B, 31 SL_B, 32 GL_B, 33 GL_A, 34 SL_A, 35 SH_A, 36 GH_A, 37 VCP_LSD, 38 VCPH, 39 CP2H, 40 CP2L, 41 PVDD, 42 CP1L, 43 CP1H, 44 VDRAIN, 45 GND, 46 DVDD, 47 WAKE, 48 VREG, 49 GND

## DS18B20
designator D*
温度传感器
footprint TO-92 (TO, Flat Index; 3 In-Line, Axial Leads; Body Dia. 4.8mm; Leads 0.55 x 0.51 mm (max))
pins: 1 GND, 2 DQ, 3 VCC

## DS18B20_1
designator U?, comment DS18B20
footprint DS18B20
pins: 1 GND, 2 DQ, 3 VDD

## DS1302
designator U?
DS1302, RTC, Trickle-Charge Timekeeping Chip, Real-Time Clock Counts Seconds, Minutes, Hours, Date of the Month, Month, Day of the Week, and Year with Leap-Year Compensation Valid Up to 2100; VENDOR: DALLAS(MAXIM)
footprint SOP-8 (8-Pin Small Outline Integrated Circuit 1.27 mm Pitch, IPC Low Density)
footprint DIP-8 (DIP8封装，100mil间距，300mil引脚宽度)
pins: 1 VCC2 "Primary Power-Supply Pin in Dual Supply Configuration. VCC1 is connected to a backup source to maintain the time and date in the absence of primary power. The DS1302 operates from the larger of VCC1 or VCC2. When VCC2 is greater than VCC1 + 0.2V, VCC2 powers the DS1302. When VCC2 is less than VCC1, VCC1 powers the DS1302.", 2 X1 "Connections for Standard 32.768kHz Quartz Crystal. The internal oscillator is designed for operation with a crystal having a specified load capacitance of 6pF. For more information on crystal selection and crystal layout considerations, refer to Application Note 58: Crystal Considerations for Dallas Real-Time Clocks. The DS1302 can also be driven by an external 32.768kHz oscillator. In this configuration, the X1 pin is connected to the external oscillator signal and the X2 pin is floated.", 3 X2 "Connections for Standard 32.768kHz Quartz Crystal. The internal oscillator is designed for operation with a crystal having a specified load capacitance of 6pF. For more information on crystal selection and crystal layout considerations, refer to Application Note 58: Crystal Considerations for Dallas Real-Time Clocks. The DS1302 can also be driven by an external 32.768kHz oscillator. In this configuration, the X1 pin is connected to the external oscillator signal and the X2 pin is floated.", 4 GND "Ground", 5 CE/~{RST} "Input. CE signal must be asserted high during a read or a write. This pin has an internal 40kΩ (typ) pulldown resistor to ground. Note: Previous data sheet revisions referred to CE as RST. The functionality of the pin has not changed.", 6 I/O "Input/Push-Pull Output. The I/O pin is the bidirectional data pin for the 3-wire interface. This pin has an internal 40kΩ (typ) pulldown resistor to ground.", 7 SCLK "Input. SCLK is used to synchronize data movement on the serial interface. This pin has an internal 40kΩ (typ) pulldown resistor to ground.", 8 VCC1 "Low-Power Operation in Single Supply and Battery-Operated Systems and Low-Power Battery Backup. In systems using the trickle charger, the rechargeable energy source is connected to this pin. UL recognized to ensure against reverse charging current when used with a lithium battery."

## DS1307
designator U?, comment DS1302
I2C RTC; VENDOR: DALLAS(MAXIM)
footprint SOP-8 (8-Pin Small Outline Integrated Circuit 1.27 mm Pitch, IPC Low Density)
footprint DIP-8 (DIP8封装，100mil间距，300mil引脚宽度)
pins: 1 X1 "Connections for Standard 32.768kHz Quartz Crystal. The internal oscillator is designed for operation with a crystal having a specified load capacitance of 6pF. For more information on crystal selection and crystal layout considerations, refer to Application Note 58: Crystal Considerations for Dallas Real-Time Clocks. The DS1302 can also be driven by an external 32.768kHz oscillator. In this configuration, the X1 pin is connected to the external oscillator signal and the X2 pin is floated.", 2 X2 "Connections for Standard 32.768kHz Quartz Crystal. The internal oscillator is designed for operation with a crystal having a specified load capacitance of 6pF. For more information on crystal selection and crystal layout considerations, refer to Application Note 58: Crystal Considerations for Dallas Real-Time Clocks. The DS1302 can also be driven by an external 32.768kHz oscillator. In this configuration, the X1 pin is connected to the external oscillator signal and the X2 pin is floated.", 3 VBAT "Primary Power-Supply Pin in Dual Supply Configuration. VCC1 is connected to a backup source to maintain the time and date in the absence of primary power. The DS1302 operates from the larger of VCC1 or VCC2. When VCC2 is greater than VCC1 + 0.2V, VCC2 powers the DS1302. When VCC2 is less than VCC1, VCC1 powers the DS1302.", 4 GND "Ground", 5 SDA "Input. CE signal must be asserted high during a read or a write. This pin has an internal 40kΩ (typ) pulldown resistor to ground. Note: Previous data sheet revisions referred to CE as RST. The functionality of the pin has not changed.", 6 SCL "Input/Push-Pull Output. The I/O pin is the bidirectional data pin for the 3-wire interface. This pin has an internal 40kΩ (typ) pulldown resistor to ground.", 7 SQW/OUT "Input. SCLK is used to synchronize data movement on the serial interface. This pin has an internal 40kΩ (typ) pulldown resistor to ground.", 8 VCC "Low-Power Operation in Single Supply and Battery-Operated Systems and Low-Power Battery Backup. In systems using the trickle charger, the rechargeable energy source is connected to this pin. UL recognized to ensure against reverse charging current when used with a lithium battery."

## DS2413
designator *
footprint TSOC6
pins: 1 GND1, 2 IO, 3 NC, 4 PIOB, 5 GND2, 6 PIOA

## DSUB-2W2
designator D?
footprint DSUB-2W2
pins: 1, 2, 3, 4

## DTC143
designator U?
Digital transistors (built-in resistors)
footprint SOT23-3 (SOT-23; 3 Leads; Body 3.0 x 2.5 mm, inc. leads (LxW max))
pins: 1 B "IN", 2 E "GND", 3 C "OUT"

## DW01-PLUS
designator U?
One Cell Lithium-ion/Polymer Battery Protection IC
footprint SOT23-6 (SOT-457/SC-74; 6 Leads; Body 3 x 3 mm, inc. leads (LxW max))
pins: 1 OD "MOSFET gate connection pin for discharge control", 2 CS "Input pin for current sense, charger detect", 3 OC "MOSFET gate connection pin for charge control", 4 TD "Test pin for reduce delay time", 5 VDD "Power supply, through a resistor (R1)", 6 VSS "Ground pin"

## EA3036
designator U?
EA3036 is a 3CH power management IC for applications powered by one Li-Ion battery or a DC 5V adapter.
footprint QFN20_40P300X300X80_HS-21N (QFN, 20-Leads, Body 3.00x3.00mm, Pitch 0.40mm, Thermal Pad 1.65x1.65mm, IPC Medium Density)
part A pins: 9 EN1 "CH1 turns on/turns off control input. Don’t leave this pin floating.", 10 VIN1 (power) "Power input pin of CH1. Recommended to use a 10uF MLCC capacitor between VIN1 pin and GND1 pin.", 11 LX1 "Internal MOSFET switching output of CH1. Connect LX1 pin with a low pass filter circuit to obtain a stable DC output voltage.", 12 GND1 (power) "Power ground pin of CH1.", 13 GND1 (power) "Power ground pin of CH1.", 14 FB1 "Feedback input of CH1. Connect to output voltage with a resistor divider."
part B pins: 3 FB2 "Feedback input of CH2. Connect to output voltage with a resistor divider.", 4 GND2 (power) "Power ground pin of CH2.", 5 GND2 (power) "Power ground pin of CH2.", 6 LX2 "Internal MOSFET switching output of CH2. Connect LX2 pin with a low pass filter circuit to obtain a stable DC output voltage.", 7 VIN2 (power) "Power input pin of CH2. Recommended to use a 10uF MLCC capacitor between VIN2 pin and GND2 pin.", 8 EN2 "CH2 turns on/turns off control input. Don’t leave this pin floating."
part C pins: 1 GND3 (power) "Power ground pin of CH3.", 2 FB3 "Feedback input of CH3. Connect to output voltage with a resistor divider.", 18 EN3 "CH3 turns on/turns off control input. Don’t leave this pin floating.", 19 VIN3 (power) "Power input pin of CH3. Recommended to use a 10uF MLCC capacitor between VIN3 pin and GND3 pin.", 20 LX3 "Internal MOSFET switching output of CH3. Connect SW3 pin with a low pass filter circuit to obtain a stable DC output voltage."
part D pins: 15 AGND (power) "Analog ground pin.", 16 VCC (power) "Input supply pin for internal control circuit.", 17 AGND (power) "Analog ground pin.", 21 GND/ExposedPad (power) "The Exposed Pad must be soldered to a large PCB copper plane and connected to GND for appropriate dissipation."
part A text: Buck Converter 1
part B text: Buck Converter 2
part C text: Buck Converter 3
part D text: Internal Control